# Altium schematic symbol library 74xx.SchLib: 245 symbols (part 1 of 2)
Pins are listed as number, name and electrical type; pins without a type are passive.

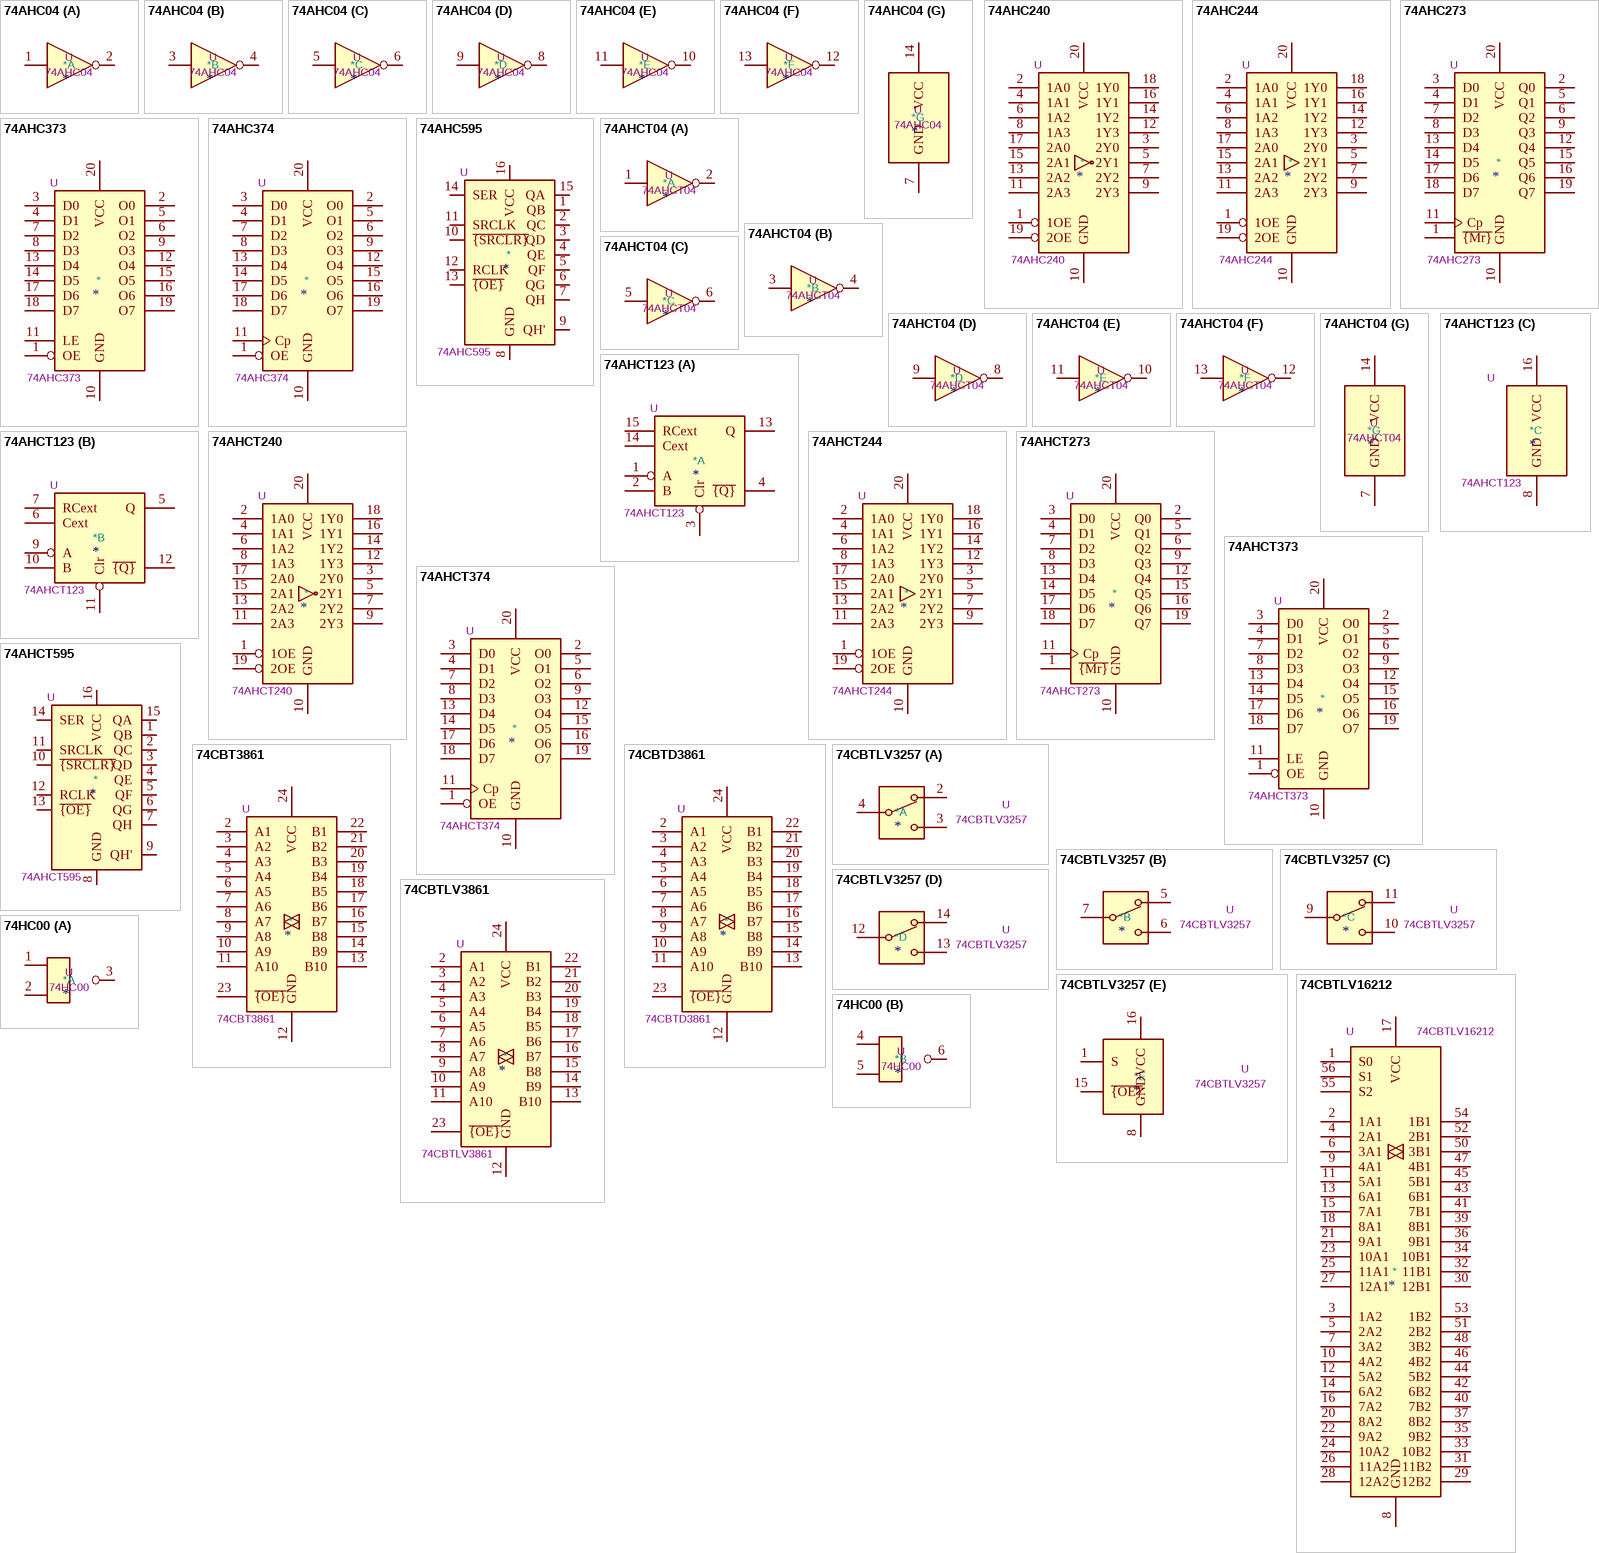
[diagram p0: symbols 74AHC04 to 74HC00]

## 74AHC04
designator *  value 74AHC04  Reference: U
ki_keywords: AHCMOS not inv; ki_description: Hex Inverter; ki_fp_filters: DIP*W7.62mm* SSOP?14* TSSOP?14*; Datasheet: https://assets.nexperia.com/documents/data-sheet/74AHC_AHCT04.pdf
part A pins: 1, 2
part B pins: 3, 4
part C pins: 5, 6
part D pins: 8, 9
part E pins: 10, 11
part F pins: 12, 13
part G pins: 7 GND, 14 VCC

## 74AHC240
designator *  value 74AHC240  Reference: U
ki_keywords: AHCMOS BUFFER 3State inv; ki_description: 8-bit Buffer/Line Driver 3-state Inverting; ki_fp_filters: DIP*W7.62mm* SOIC*7.5x12.8mm*P1.27mm* TSSOP*4.4x6.5mm*P0.65mm* SSOP*4.4x6.5mm*P0.65mm*; Datasheet: https://www.ti.com/lit/ds/symlink/sn54ahc240.pdf
pins: 1 1OE, 2 1A0, 3 2Y0, 4 1A1, 5 2Y1, 6 1A2, 7 2Y2, 8 1A3, 9 2Y3, 10 GND, 11 2A3, 12 1Y3, 13 2A2, 14 1Y2, 15 2A1, 16 1Y1, 17 2A0, 18 1Y0, 19 2OE, 20 VCC

## 74AHC244
designator *  value 74AHC244  Reference: U
ki_keywords: AHCMOS BUFFER 3State; ki_description: 8-bit Buffer/Line Driver 3-state; ki_fp_filters: TSSOP*4.4x6.5mm*P0.65mm* SSOP*4.4x6.5mm*P0.65mm*; Datasheet: https://assets.nexperia.com/documents/data-sheet/74AHC_AHCT244.pdf
pins: 1 1OE, 2 1A0, 3 2Y0, 4 1A1, 5 2Y1, 6 1A2, 7 2Y2, 8 1A3, 9 2Y3, 10 GND, 11 2A3, 12 1Y3, 13 2A2, 14 1Y2, 15 2A1, 16 1Y1, 17 2A0, 18 1Y0, 19 2OE, 20 VCC

## 74AHC273
designator *  value 74AHC273  Reference: U
ki_keywords: AHCMOS DFF DFF8; ki_description: 8-bit D Flip-Flop, reset; ki_fp_filters: DIP?20* SO?20* SOIC?20*; Datasheet: https://assets.nexperia.com/documents/data-sheet/74AHC_AHCT273.pdf
pins: 1 ~{{Mr}}, 2 Q0, 3 D0, 4 D1, 5 Q1, 6 Q2, 7 D2, 8 D3, 9 Q3, 10 GND, 11 Cp, 12 Q4, 13 D4, 14 D5, 15 Q5, 16 Q6, 17 D6, 18 D7, 19 Q7, 20 VCC

## 74AHC373
designator *  value 74AHC373  Reference: U
ki_keywords: AHCMOS REG DFF DFF8 LATCH; ki_description: 8-bit Latch, 3-state outputs; ki_fp_filters: DIP?20* SOIC?20* SO?20* SSOP?20* TSSOP?20*; Datasheet: https://assets.nexperia.com/documents/data-sheet/74AHC373.pdf
pins: 1 OE, 2 O0, 3 D0, 4 D1, 5 O1, 6 O2, 7 D2, 8 D3, 9 O3, 10 GND, 11 LE, 12 O4, 13 D4, 14 D5, 15 O5, 16 O6, 17 D6, 18 D7, 19 O7, 20 VCC

## 74AHC374
designator *  value 74AHC374  Reference: U
ki_keywords: AHCMOS DFF DFF8 REG 3State; ki_description: 8-bit Register, 3-state outputs; ki_fp_filters: DIP?20* SOIC?20* SO?20*; Datasheet: https://assets.nexperia.com/documents/data-sheet/74AHC_AHCT374.pdf
pins: 1 OE, 2 O0, 3 D0, 4 D1, 5 O1, 6 O2, 7 D2, 8 D3, 9 O3, 10 GND, 11 Cp, 12 O4, 13 D4, 14 D5, 15 O5, 16 O6, 17 D6, 18 D7, 19 O7, 20 VCC

## 74AHC595
designator *  value 74AHC595  Reference: U
ki_keywords: AHCMOS SR 3State; ki_description: 8-bit serial in/out Shift Register 3-State Outputs; ki_fp_filters: DIP*W7.62mm* SOIC*3.9x9.9mm*P1.27mm* TSSOP*4.4x5mm*P0.65mm* SOIC*5.3x10.2mm*P1.27mm* SOIC*7.5x10.3mm*P1.27mm*; Datasheet: https://assets.nexperia.com/documents/data-sheet/74AHC_AHCT595.pdf
pins: 1 QB, 2 QC, 3 QD, 4 QE, 5 QF, 6 QG, 7 QH, 8 GND, 9 QH', 10 ~{{SRCLR}}, 11 SRCLK, 12 RCLK, 13 ~{{OE}}, 14 SER, 15 QA, 16 VCC

## 74AHCT04
designator *  value 74AHCT04  Reference: U
ki_keywords: AHCTMOS not inv; ki_description: Hex Inverter; ki_fp_filters: DIP*W7.62mm* SSOP?14* TSSOP?14*; Datasheet: https://assets.nexperia.com/documents/data-sheet/74AHC_AHCT04.pdf
part A pins: 1, 2
part B pins: 3, 4
part C pins: 5, 6
part D pins: 8, 9
part E pins: 10, 11
part F pins: 12, 13
part G pins: 7 GND, 14 VCC

## 74AHCT123
designator *  value 74AHCT123  Reference: U
ki_keywords: TTL monostable, multivibrator; ki_description: Dual retriggerable monostable multivibrator; ki_fp_filters: DIP?16*; Datasheet: http://www.ti.com/lit/gpn/sn74ahct123a
part A pins: 1 A, 2 B, 3 Clr, 4 ~{{Q}}, 13 Q, 14 Cext, 15 RCext
part B pins: 5 Q, 6 Cext, 7 RCext, 9 A, 10 B, 11 Clr, 12 ~{{Q}}
part C pins: 8 GND, 16 VCC

## 74AHCT240
designator *  value 74AHCT240  Reference: U
ki_keywords: AHCTMOS BUFFER 3State inv; ki_description: 8-bit Buffer/Line Driver 3-state Inverting; ki_fp_filters: DIP*W7.62mm* SOIC*7.5x12.8mm*P1.27mm* TSSOP*4.4x6.5mm*P0.65mm* SSOP*4.4x6.5mm*P0.65mm*; Datasheet: https://assets.nexperia.com/documents/data-sheet/74AHCT240.pdf
pins: 1 1OE, 2 1A0, 3 2Y0, 4 1A1, 5 2Y1, 6 1A2, 7 2Y2, 8 1A3, 9 2Y3, 10 GND, 11 2A3, 12 1Y3, 13 2A2, 14 1Y2, 15 2A1, 16 1Y1, 17 2A0, 18 1Y0, 19 2OE, 20 VCC

## 74AHCT244
designator *  value 74AHCT244  Reference: U
ki_keywords: AHCTMOS BUFFER 3State; ki_description: 8-bit Buffer/Line Driver 3-state; ki_fp_filters: TSSOP*4.4x6.5mm*P0.65mm* SSOP*4.4x6.5mm*P0.65mm*; Datasheet: https://assets.nexperia.com/documents/data-sheet/74AHC_AHCT244.pdf
pins: 1 1OE, 2 1A0, 3 2Y0, 4 1A1, 5 2Y1, 6 1A2, 7 2Y2, 8 1A3, 9 2Y3, 10 GND, 11 2A3, 12 1Y3, 13 2A2, 14 1Y2, 15 2A1, 16 1Y1, 17 2A0, 18 1Y0, 19 2OE, 20 VCC

## 74AHCT273
designator *  value 74AHCT273  Reference: U
ki_keywords: AHCTMOS DFF DFF8; ki_description: 8-bit D Flip-Flop, reset; ki_fp_filters: DIP?20* SO?20* SOIC?20*; Datasheet: https://assets.nexperia.com/documents/data-sheet/74AHC_AHCT273.pdf
pins: 1 ~{{Mr}}, 2 Q0, 3 D0, 4 D1, 5 Q1, 6 Q2, 7 D2, 8 D3, 9 Q3, 10 GND, 11 Cp, 12 Q4, 13 D4, 14 D5, 15 Q5, 16 Q6, 17 D6, 18 D7, 19 Q7, 20 VCC

## 74AHCT373
designator *  value 74AHCT373  Reference: U
ki_keywords: AHCTMOS REG DFF DFF8 LATCH; ki_description: 8-bit Latch, 3-state outputs; ki_fp_filters: DIP?20* SOIC?20* SO?20* SSOP?20* TSSOP?20*; Datasheet: https://www.ti.com/lit/ds/symlink/sn74ahct373.pdf
pins: 1 OE, 2 O0, 3 D0, 4 D1, 5 O1, 6 O2, 7 D2, 8 D3, 9 O3, 10 GND, 11 LE, 12 O4, 13 D4, 14 D5, 15 O5, 16 O6, 17 D6, 18 D7, 19 O7, 20 VCC

## 74AHCT374
designator *  value 74AHCT374  Reference: U
ki_keywords: AHCTMOS DFF DFF8 REG 3State; ki_description: 8-bit Register, 3-state outputs; ki_fp_filters: DIP?20* SOIC?20* SO?20*; Datasheet: https://assets.nexperia.com/documents/data-sheet/74AHC_AHCT374.pdf
pins: 1 OE, 2 O0, 3 D0, 4 D1, 5 O1, 6 O2, 7 D2, 8 D3, 9 O3, 10 GND, 11 Cp, 12 O4, 13 D4, 14 D5, 15 O5, 16 O6, 17 D6, 18 D7, 19 O7, 20 VCC

## 74AHCT595
designator *  value 74AHCT595  Reference: U
ki_keywords: AHCTMOS SR 3State; ki_description: 8-bit serial in/out Shift Register 3-State Outputs; ki_fp_filters: DIP*W7.62mm* SOIC*3.9x9.9mm*P1.27mm* TSSOP*4.4x5mm*P0.65mm* SOIC*5.3x10.2mm*P1.27mm* SOIC*7.5x10.3mm*P1.27mm*; Datasheet: https://assets.nexperia.com/documents/data-sheet/74AHC_AHCT595.pdf
pins: 1 QB, 2 QC, 3 QD, 4 QE, 5 QF, 6 QG, 7 QH, 8 GND, 9 QH', 10 ~{{SRCLR}}, 11 SRCLK, 12 RCLK, 13 ~{{OE}}, 14 SER, 15 QA, 16 VCC

## 74CBT3861
designator *  value 74CBT3861  Reference: U
ki_keywords: bus; ki_description: 10-bit FET bus switch; ki_fp_filters: DIP?24*; Datasheet: https://www.ti.com/lit/ds/symlink/sn74cbt3861.pdf
pins: 1 NC hidden, 2 A1, 3 A2, 4 A3, 5 A4, 6 A5, 7 A6, 8 A7, 9 A8, 10 A9, 11 A10, 12 GND, 13 B10, 14 B9, 15 B8, 16 B7, 17 B6, 18 B5, 19 B4, 20 B3, 21 B2, 22 B1, 23 ~{{OE}}, 24 VCC

## 74CBTD3861
designator *  value 74CBTD3861  Reference: U
ki_keywords: bus; ki_description: 10-bit FET Bus switch; ki_fp_filters: DIP?24*; Datasheet: https://www.ti.com/lit/ds/symlink/sn74cbtd3861.pdf
pins: 1 NC hidden, 2 A1, 3 A2, 4 A3, 5 A4, 6 A5, 7 A6, 8 A7, 9 A8, 10 A9, 11 A10, 12 GND, 13 B10, 14 B9, 15 B8, 16 B7, 17 B6, 18 B5, 19 B4, 20 B3, 21 B2, 22 B1, 23 ~{{OE}}, 24 VCC

## 74CBTLV3257
designator *  value 74CBTLV3257  Reference: U
ki_keywords: mux demux low-voltage; ki_description: Quad 1:2 FET Multiplexer/Demultiplexer, Low-Voltage; ki_fp_filters: SSOP*3.9x4.9mm*P0.635mm* TSSOP*4.4x5mm*P0.65mm* TVSOP*4.4x3.6mm*P0.4mm* SOIC*3.9x9.9mm*P1.27mm*; Datasheet: http://www.ti.com/lit/ds/symlink/sn74cbtlv3257.pdf
part A pins: 2, 3, 4
part B pins: 5, 6, 7
part C pins: 9, 10, 11
part D pins: 12, 13, 14
part E pins: 1 S, 8 GND, 15 ~{{OE}}, 16 VCC

## 74CBTLV3861
designator *  value 74CBTLV3861  Reference: U
ki_keywords: bus; ki_description: Low-voltage 10-bit FET bus switch; ki_fp_filters: DIP?24*; Datasheet: http://www.ti.com/lit/gpn/sn74cbtlv3861
pins: 1 NC hidden, 2 A1, 3 A2, 4 A3, 5 A4, 6 A5, 7 A6, 8 A7, 9 A8, 10 A9, 11 A10, 12 GND, 13 B10, 14 B9, 15 B8, 16 B7, 17 B6, 18 B5, 19 B4, 20 B3, 21 B2, 22 B1, 23 ~{{OE}}, 24 VCC

## 74CBTLV16212
designator *  value 74CBTLV16212  Reference: U
ki_keywords: bus; ki_description: Low-voltage 24-bit FET Bus-exchange switch; ki_fp_filters: SSOP* TSSOP*; Datasheet: https://www.ti.com/lit/ds/symlink/sn74cbtlv16212.pdf
pins: 1 S0, 2 1A1, 3 1A2, 4 2A1, 5 2A2, 6 3A1, 7 3A2, 8 GND, 9 4A1, 10 4A2, 11 5A1, 12 5A2, 13 6A1, 14 6A2, 15 7A1, 16 7A2, 17 VCC, 18 8A1, 19 GND hidden, 20 8A2, 21 9A1, 22 9A2, 23 10A1, 24 10A2, 25 11A1, 26 11A2, 27 12A1, 28 12A2, 29 12B2, 30 12B1, 31 11B2, 32 11B1, 33 10B2, 34 10B1, 35 9B2, 36 9B1, 37 8B2, 38 GND hidden, 39 8B1, 40 7B2, 41 7B1, 42 6B2, 43 6B1, 44 5B2, 45 5B1, 46 4B2, 47 4B1, 48 3B2, 49 GND hidden, 50 3B1, 51 2B2, 52 2B1, 53 1B2, 54 1B1, 55 S2, 56 S1

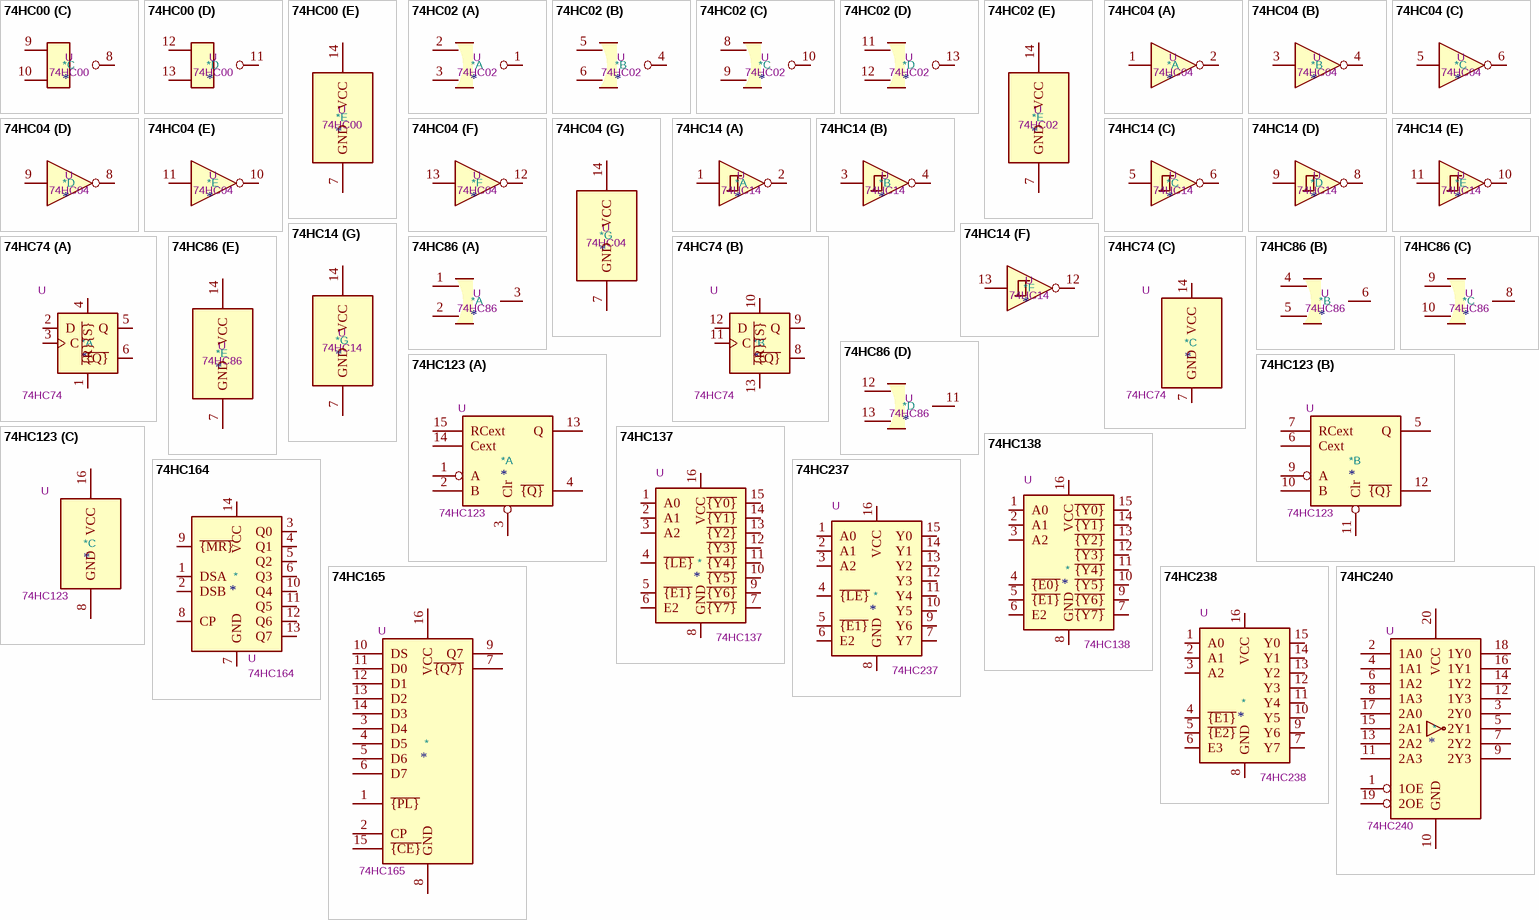
[diagram p1: symbols 74HC00 to 74HC240]

## 74HC00
designator *  value 74HC00  Reference: U
ki_keywords: HCMOS nand 2-input; ki_description: quad 2-input NAND gate; ki_fp_filters: DIP*W7.62mm* SO14*; Datasheet: http://www.ti.com/lit/gpn/sn74hc00
part A pins: 1, 2, 3
part B pins: 4, 5, 6
part C pins: 8, 9, 10
part D pins: 11, 12, 13
part E pins: 7 GND, 14 VCC
1 alternate drawing of the same symbol

## 74HC02
designator *  value 74HC02  Reference: U
ki_keywords: HCMOS Nor2; ki_description: quad 2-input NOR gate; ki_fp_filters: SO14* DIP*W7.62mm*; Datasheet: http://www.ti.com/lit/gpn/sn74hc02
part A pins: 1, 2, 3
part B pins: 4, 5, 6
part C pins: 8, 9, 10
part D pins: 11, 12, 13
part E pins: 7 GND, 14 VCC
1 alternate drawing of the same symbol

## 74HC04
designator *  value 74HC04  Reference: U
ki_keywords: HCMOS not inv; ki_description: Hex Inverter; ki_fp_filters: DIP*W7.62mm* SSOP?14* TSSOP?14*; Datasheet: https://assets.nexperia.com/documents/data-sheet/74HC_HCT04.pdf
part A pins: 1, 2
part B pins: 3, 4
part C pins: 5, 6
part D pins: 8, 9
part E pins: 10, 11
part F pins: 12, 13
part G pins: 7 GND, 14 VCC

## 74HC14
designator *  value 74HC14  Reference: U
ki_keywords: HCMOS not inverter; ki_description: Hex inverter schmitt trigger; ki_fp_filters: DIP*W7.62mm*; Datasheet: http://www.ti.com/lit/gpn/sn74HC14
part A pins: 1, 2
part B pins: 3, 4
part C pins: 5, 6
part D pins: 8, 9
part E pins: 10, 11
part F pins: 12, 13
part G pins: 7 GND, 14 VCC

## 74HC74
designator *  value 74HC74  Reference: U
ki_keywords: TTL DFF; ki_description: Dual D Flip-flop, Set & Reset; ki_fp_filters: DIP*W7.62mm*; Datasheet: 74xx/74hc_hct74.pdf
part A pins: 1 ~{{R}}, 2 D, 3 C, 4 ~{{S}}, 5 Q, 6 ~{{Q}}
part B pins: 8 ~{{Q}}, 9 Q, 10 ~{{S}}, 11 C, 12 D, 13 ~{{R}}
part C pins: 7 GND, 14 VCC

## 74HC86
designator *  value 74HC86  Reference: U
ki_keywords: TTL XOR2; ki_description: Quad 2-input XOR; ki_fp_filters: DIP*W7.62mm*; Datasheet: http://www.ti.com/lit/gpn/sn74HC86
part A pins: 1, 2, 3
part B pins: 4, 5, 6
part C pins: 8, 9, 10
part D pins: 11, 12, 13
part E pins: 7 GND, 14 VCC

## 74HC123
designator *  value 74HC123  Reference: U
ki_keywords: TTL monostable, multivibrator; ki_description: Dual retriggerable monostable multivibrator; ki_fp_filters: DIP?16*; Datasheet: https://assets.nexperia.com/documents/data-sheet/74HC_HCT123.pdf
part A pins: 1 A, 2 B, 3 Clr, 4 ~{{Q}}, 13 Q, 14 Cext, 15 RCext
part B pins: 5 Q, 6 Cext, 7 RCext, 9 A, 10 B, 11 Clr, 12 ~{{Q}}
part C pins: 8 GND, 16 VCC

## 74HC137
designator *  value 74HC137  Reference: U
ki_keywords: demux; ki_description: 3-to-8 line decoder/multiplexer with address latches, DIP-16/SOIC-16/SSOP-16; ki_fp_filters: DIP*W7.62mm* SOIC*3.9x9.9mm*P1.27mm* SSOP*5.3x6.2mm*P0.65mm*; Datasheet: http://www.ti.com/lit/ds/symlink/cd74hc237.pdf
pins: 1 A0, 2 A1, 3 A2, 4 ~{{LE}}, 5 ~{{E1}}, 6 E2, 7 ~{{Y7}}, 8 GND, 9 ~{{Y6}}, 10 ~{{Y5}}, 11 ~{{Y4}}, 12 ~{{Y3}}, 13 ~{{Y2}}, 14 ~{{Y1}}, 15 ~{{Y0}}, 16 VCC

## 74HC138
designator *  value 74HC138  Reference: U
ki_keywords: demux; ki_description: 3-to-8 line decoder/multiplexer inverting, DIP-16/SOIC-16/SSOP-16; ki_fp_filters: DIP*W7.62mm* SOIC*3.9x9.9mm*P1.27mm* SSOP*5.3x6.2mm*P0.65mm*; Datasheet: http://www.ti.com/lit/ds/symlink/cd74hc238.pdf
pins: 1 A0, 2 A1, 3 A2, 4 ~{{E0}}, 5 ~{{E1}}, 6 E2, 7 ~{{Y7}}, 8 GND, 9 ~{{Y6}}, 10 ~{{Y5}}, 11 ~{{Y4}}, 12 ~{{Y3}}, 13 ~{{Y2}}, 14 ~{{Y1}}, 15 ~{{Y0}}, 16 VCC

## 74HC164
designator *  value 74HC164  Reference: U
ki_keywords: 8-bit shift register; ki_description: 8-bit serial-in parallel-out shift register; ki_fp_filters: SOIC*3.9x8.7*P1.27mm* ?SSOP*P0.65mm* DIP*W7.62mm*; Datasheet: https://assets.nexperia.com/documents/data-sheet/74HC_HCT164.pdf
pins: 1 DSA, 2 DSB, 3 Q0, 4 Q1, 5 Q2, 6 Q3, 7 GND, 8 CP, 9 ~{{MR}}, 10 Q4, 11 Q5, 12 Q6, 13 Q7, 14 VCC

## 74HC165
designator *  value 74HC165  Reference: U
ki_keywords: 8 bit shift register parallel load cmos; ki_description: Shift Register, 8-bit, Parallel Load; ki_fp_filters: DIP?16* SO*16*3.9x9.9mm*P1.27mm* SSOP*16*5.3x6.2mm*P0.65mm* TSSOP*16*4.4x5mm*P0.65*; Datasheet: https://assets.nexperia.com/documents/data-sheet/74HC_HCT165.pdf
pins: 1 ~{{PL}}, 2 CP, 3 D4, 4 D5, 5 D6, 6 D7, 7 ~{{Q7}}, 8 GND, 9 Q7, 10 DS, 11 D0, 12 D1, 13 D2, 14 D3, 15 ~{{CE}}, 16 VCC

## 74HC237
designator *  value 74HC237  Reference: U
ki_keywords: demux; ki_description: 3-to-8 line decoder/multiplexer with address latches, DIP-16/SOIC-16/SSOP-16; ki_fp_filters: DIP*W7.62mm* SOIC*3.9x9.9mm*P1.27mm* SSOP*5.3x6.2mm*P0.65mm*; Datasheet: http://www.ti.com/lit/ds/symlink/cd74hc237.pdf
pins: 1 A0, 2 A1, 3 A2, 4 ~{{LE}}, 5 ~{{E1}}, 6 E2, 7 Y7, 8 GND, 9 Y6, 10 Y5, 11 Y4, 12 Y3, 13 Y2, 14 Y1, 15 Y0, 16 VCC

## 74HC238
designator *  value 74HC238  Reference: U
ki_keywords: demux; ki_description: 3-to-8 line decoder/multiplexer, DIP-16/SOIC-16/SSOP-16; ki_fp_filters: DIP*W7.62mm* SOIC*3.9x9.9mm*P1.27mm* TSSOP*4.4x5mm*P0.65mm*; Datasheet: https://www.ti.com/lit/ds/symlink/cd74hc238.pdf
pins: 1 A0, 2 A1, 3 A2, 4 ~{{E1}}, 5 ~{{E2}}, 6 E3, 7 Y7, 8 GND, 9 Y6, 10 Y5, 11 Y4, 12 Y3, 13 Y2, 14 Y1, 15 Y0, 16 VCC

## 74HC240
designator *  value 74HC240  Reference: U
ki_keywords: HCMOS BUFFER 3State inv; ki_description: 8-bit Buffer/Line Driver 3-state Inverting; ki_fp_filters: DIP*W7.62mm* SOIC*7.5x12.8mm*P1.27mm* TSSOP*4.4x6.5mm*P0.65mm* SSOP*4.4x6.5mm*P0.65mm*; Datasheet: https://assets.nexperia.com/documents/data-sheet/74HC_HCT240.pdf
pins: 1 1OE, 2 1A0, 3 2Y0, 4 1A1, 5 2Y1, 6 1A2, 7 2Y2, 8 1A3, 9 2Y3, 10 GND, 11 2A3, 12 1Y3, 13 2A2, 14 1Y2, 15 2A1, 16 1Y1, 17 2A0, 18 1Y0, 19 2OE, 20 VCC

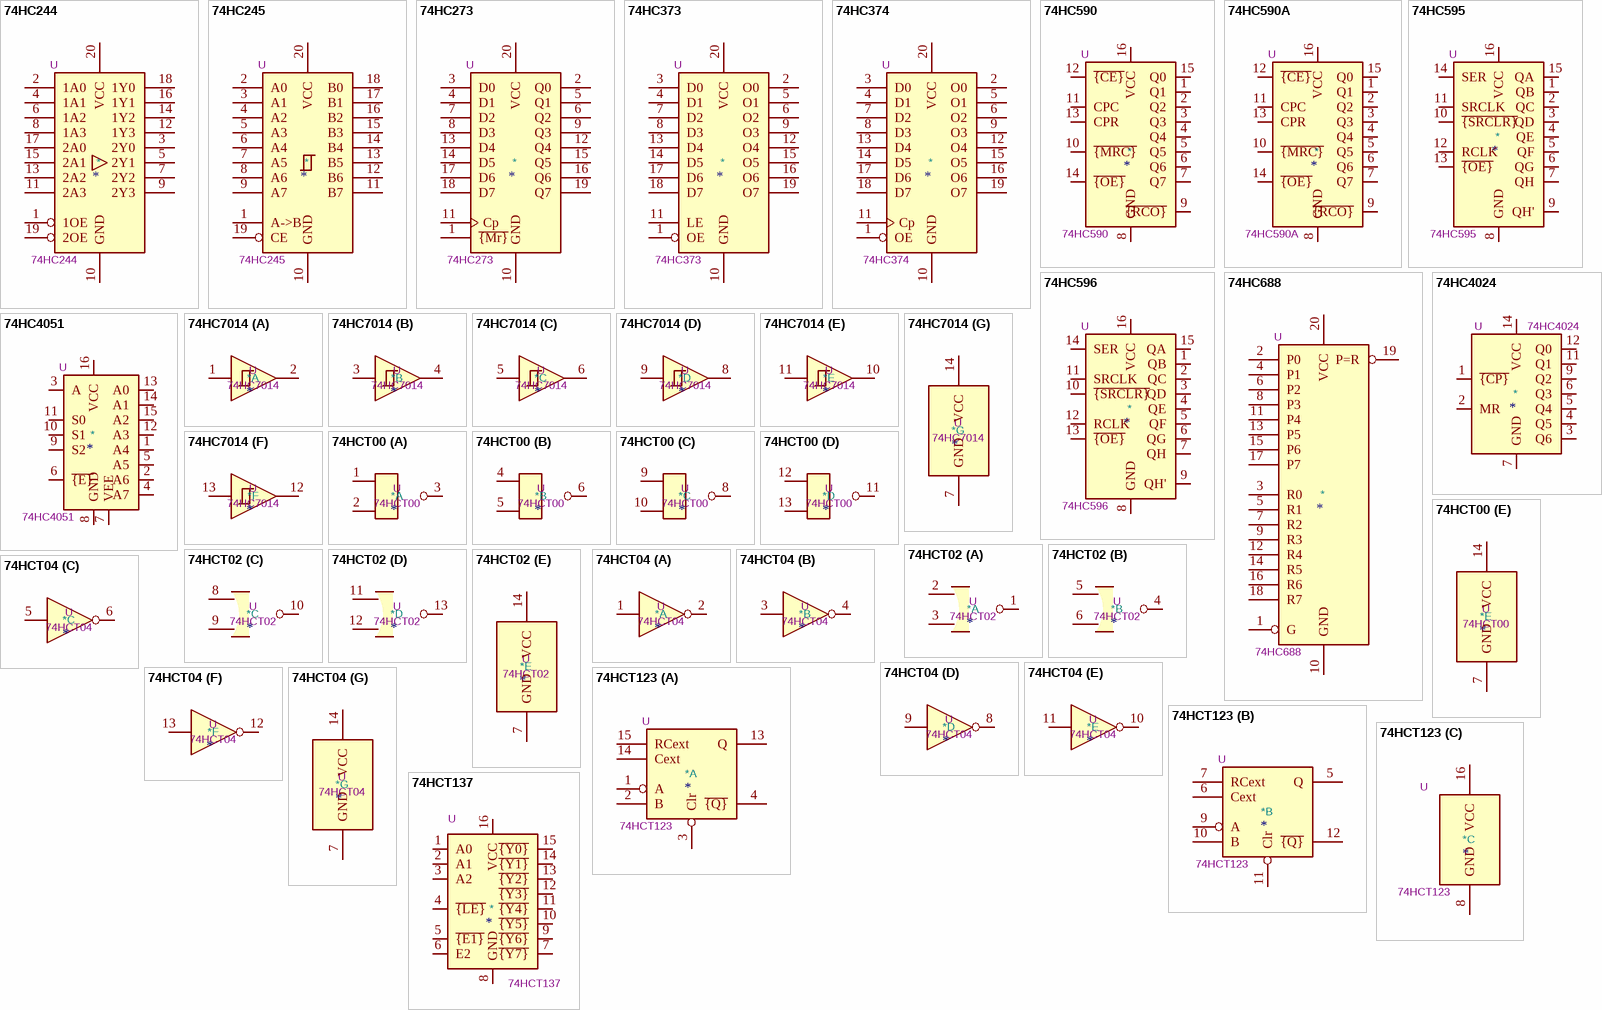
[diagram p2: symbols 74HC244 to 74HCT137]

## 74HC244
designator *  value 74HC244  Reference: U
ki_keywords: HCMOS BUFFER 3State; ki_description: 8-bit Buffer/Line Driver 3-state; ki_fp_filters: TSSOP*4.4x6.5mm*P0.65mm* SSOP*4.4x6.5mm*P0.65mm*; Datasheet: https://assets.nexperia.com/documents/data-sheet/74HC_HCT244.pdf
pins: 1 1OE, 2 1A0, 3 2Y0, 4 1A1, 5 2Y1, 6 1A2, 7 2Y2, 8 1A3, 9 2Y3, 10 GND, 11 2A3, 12 1Y3, 13 2A2, 14 1Y2, 15 2A1, 16 1Y1, 17 2A0, 18 1Y0, 19 2OE, 20 VCC

## 74HC245
designator *  value 74HC245  Reference: U
ki_keywords: HCMOS BUS 3State; ki_description: Octal BUS Transceivers, 3-State outputs; ki_fp_filters: DIP?20*; Datasheet: http://www.ti.com/lit/gpn/sn74HC245
pins: 1 A->B, 2 A0, 3 A1, 4 A2, 5 A3, 6 A4, 7 A5, 8 A6, 9 A7, 10 GND, 11 B7, 12 B6, 13 B5, 14 B4, 15 B3, 16 B2, 17 B1, 18 B0, 19 CE, 20 VCC

## 74HC273
designator *  value 74HC273  Reference: U
ki_keywords: HCMOS DFF DFF8; ki_description: 8-bit D Flip-Flop, reset; ki_fp_filters: DIP?20* SO?20* SOIC?20*; Datasheet: https://assets.nexperia.com/documents/data-sheet/74HC_HCT273.pdf
pins: 1 ~{{Mr}}, 2 Q0, 3 D0, 4 D1, 5 Q1, 6 Q2, 7 D2, 8 D3, 9 Q3, 10 GND, 11 Cp, 12 Q4, 13 D4, 14 D5, 15 Q5, 16 Q6, 17 D6, 18 D7, 19 Q7, 20 VCC

## 74HC373
designator *  value 74HC373  Reference: U
ki_keywords: HCMOS REG DFF DFF8 LATCH; ki_description: 8-bit Latch, 3-state outputs; ki_fp_filters: DIP?20* SOIC?20* SO?20* SSOP?20* TSSOP?20*; Datasheet: https://www.ti.com/lit/ds/symlink/cd54hc373.pdf
pins: 1 OE, 2 O0, 3 D0, 4 D1, 5 O1, 6 O2, 7 D2, 8 D3, 9 O3, 10 GND, 11 LE, 12 O4, 13 D4, 14 D5, 15 O5, 16 O6, 17 D6, 18 D7, 19 O7, 20 VCC

## 74HC374
designator *  value 74HC374  Reference: U
ki_keywords: HCMOS DFF DFF8 REG 3State; ki_description: 8-bit Register, 3-state outputs; ki_fp_filters: DIP?20* SOIC?20* SO?20*; Datasheet: https://www.ti.com/lit/ds/symlink/cd74hct374.pdf
pins: 1 OE, 2 O0, 3 D0, 4 D1, 5 O1, 6 O2, 7 D2, 8 D3, 9 O3, 10 GND, 11 Cp, 12 O4, 13 D4, 14 D5, 15 O5, 16 O6, 17 D6, 18 D7, 19 O7, 20 VCC

## 74HC590
designator *  value 74HC590  Reference: U
ki_keywords: HCMOS Counter 3State; ki_description: 8-bit Binary Counter with Output Register 3-State Outputs, SOIC-16/TSSOP-16; ki_fp_filters: DIP*W7.62mm* SOIC*3.9x9.9mm*P1.27mm* TSSOP*4.4x5mm*P0.65mm* SOIC*5.3x10.2mm*P1.27mm* SOIC*7.5x10.3mm*P1.27mm*; Datasheet: https://assets.nexperia.com/documents/data-sheet/74HC590.pdf
pins: 1 Q1, 2 Q2, 3 Q3, 4 Q4, 5 Q5, 6 Q6, 7 Q7, 8 GND, 9 ~{{RCO}}, 10 ~{{MRC}}, 11 CPC, 12 ~{{CE}}, 13 CPR, 14 ~{{OE}}, 15 Q0, 16 VCC

## 74HC590A
designator *  value 74HC590A  Reference: U
ki_keywords: HCMOS Counter 3State; ki_description: 8-bit Binary Counter with Output Register 3-State Outputs, DIP-16/SOIC-16/SOIC-16W; ki_fp_filters: DIP*W7.62mm* SOIC*3.9x9.9mm*P1.27mm* TSSOP*4.4x5mm*P0.65mm* SOIC*5.3x10.2mm*P1.27mm* SOIC*7.5x10.3mm*P1.27mm*; Datasheet: http://www.ti.com/lit/ds/symlink/sn74hc590a.pdf
pins: 1 Q1, 2 Q2, 3 Q3, 4 Q4, 5 Q5, 6 Q6, 7 Q7, 8 GND, 9 ~{{RCO}}, 10 ~{{MRC}}, 11 CPC, 12 ~{{CE}}, 13 CPR, 14 ~{{OE}}, 15 Q0, 16 VCC

## 74HC595
designator *  value 74HC595  Reference: U
ki_keywords: HCMOS SR 3State; ki_description: 8-bit serial in/out Shift Register 3-State Outputs; ki_fp_filters: DIP*W7.62mm* SOIC*3.9x9.9mm*P1.27mm* TSSOP*4.4x5mm*P0.65mm* SOIC*5.3x10.2mm*P1.27mm* SOIC*7.5x10.3mm*P1.27mm*; Datasheet: http://www.ti.com/lit/ds/symlink/sn74hc595.pdf
pins: 1 QB, 2 QC, 3 QD, 4 QE, 5 QF, 6 QG, 7 QH, 8 GND, 9 QH', 10 ~{{SRCLR}}, 11 SRCLK, 12 RCLK, 13 ~{{OE}}, 14 SER, 15 QA, 16 VCC

## 74HC596
designator *  value 74HC596  Reference: U
ki_keywords: HCMOS SR OpenCollector; ki_description: 8-bit serial in/out Shift Register Open Collector Outputs; ki_fp_filters: DIP*W7.62mm* SOIC*3.9x9.9mm*P1.27mm* TSSOP*4.4x5mm*P0.65mm* SOIC*5.3x10.2mm*P1.27mm* SOIC*7.5x10.3mm*P1.27mm*; Datasheet: https://assets.nexperia.com/documents/data-sheet/74HC_HCT595.pdf
pins: 1 QB, 2 QC, 3 QD, 4 QE, 5 QF, 6 QG, 7 QH, 8 GND, 9 QH', 10 ~{{SRCLR}}, 11 SRCLK, 12 RCLK, 13 ~{{OE}}, 14 SER, 15 QA, 16 VCC

## 74HC688
designator *  value 74HC688  Reference: U
ki_keywords: HCMOS DECOD Arith; ki_description: 8-bit magnitude comparator; ki_fp_filters: DIP?20* SOIC?20* SO?20* TSSOP?20*; Datasheet: https://www.ti.com/lit/ds/symlink/cd54hc688.pdf
pins: 1 G, 2 P0, 3 R0, 4 P1, 5 R1, 6 P2, 7 R2, 8 P3, 9 R3, 10 GND, 11 P4, 12 R4, 13 P5, 14 R5, 15 P6, 16 R6, 17 P7, 18 R7, 19 P=R, 20 VCC

## 74HC4024
designator *  value 74HC4024  Reference: U
ki_keywords: binary counter; ki_description: 7-stage binary ripple counter, SOIC-14; ki_fp_filters: SOIC*3.9x8.7mm*P1.27mm*; Footprint: Package_SO:SOIC-14_3.9x8.7mm_P1.27mm; Datasheet: https://assets.nexperia.com/documents/data-sheet/74HC4024.pdf
pins: 1 ~{{CP}}, 2 MR, 3 Q6, 4 Q5, 5 Q4, 6 Q3, 7 GND, 8 hidden, 9 Q2, 10 hidden, 11 Q1, 12 Q0, 13 hidden, 14 VCC

## 74HC4051
designator *  value 74HC4051  Reference: U
ki_keywords: HCMOS Multiplexer Demultiplexer Analog; ki_description: 8-channel analog multiplexer/demultiplexer, DIP-16/SOIC-16/TSSOP-16; ki_fp_filters: DIP*W7.62mm* SOIC*3.9x9.9mm*P1.27mm* SOIC*5.3x10.2mm*P1.27mm* TSSOP*4.4x5mm*P0.65mm*; Datasheet: http://www.ti.com/lit/ds/symlink/cd74hc4051.pdf
pins: 1 A4, 2 A6, 3 A, 4 A7, 5 A5, 6 ~{{E}}, 7 VEE, 8 GND, 9 S2, 10 S1, 11 S0, 12 A3, 13 A0, 14 A1, 15 A2, 16 VCC

## 74HC7014
designator *  value 74HC7014  Reference: U
ki_keywords: Hex non-inverting Schmitt buffer; ki_description: Hex non-inverting buffer with precision Schmitt Trigger inputs, SOIC-14; ki_fp_filters: SOIC*3.9x8.7mm*P1.27mm*; Footprint: Package_SO:SOIC-14_3.9x8.7mm_P1.27mm; Datasheet: https://assets.nexperia.com/documents/data-sheet/74HC7014.pdf
part A pins: 1, 2
part B pins: 3, 4
part C pins: 5, 6
part D pins: 8, 9
part E pins: 10, 11
part F pins: 12, 13
part G pins: 7 GND, 14 VCC

## 74HCT00
designator *  value 74HCT00  Reference: U
ki_keywords: HCTMOS nand 2-input; ki_description: quad 2-input NAND gate; ki_fp_filters: DIP*W7.62mm* SO14*; Datasheet: http://www.ti.com/lit/gpn/sn74hct00
part A pins: 1, 2, 3
part B pins: 4, 5, 6
part C pins: 8, 9, 10
part D pins: 11, 12, 13
part E pins: 7 GND, 14 VCC
1 alternate drawing of the same symbol

## 74HCT02
designator *  value 74HCT02  Reference: U
ki_keywords: HCTMOS Nor2; ki_description: quad 2-input NOR gate; ki_fp_filters: SO14* DIP*W7.62mm*; Datasheet: http://www.ti.com/lit/gpn/sn74hct02
part A pins: 1, 2, 3
part B pins: 4, 5, 6
part C pins: 8, 9, 10
part D pins: 11, 12, 13
part E pins: 7 GND, 14 VCC
1 alternate drawing of the same symbol

## 74HCT04
designator *  value 74HCT04  Reference: U
ki_keywords: HCTMOS not inv; ki_description: Hex Inverter; ki_fp_filters: DIP*W7.62mm* SSOP?14* TSSOP?14*; Datasheet: https://assets.nexperia.com/documents/data-sheet/74HC_HCT04.pdf
part A pins: 1, 2
part B pins: 3, 4
part C pins: 5, 6
part D pins: 8, 9
part E pins: 10, 11
part F pins: 12, 13
part G pins: 7 GND, 14 VCC

## 74HCT123
designator *  value 74HCT123  Reference: U
ki_keywords: TTL monostable, multivibrator; ki_description: Dual retriggerable monostable multivibrator; ki_fp_filters: DIP?16*; Datasheet: https://assets.nexperia.com/documents/data-sheet/74HC_HCT123.pdf
part A pins: 1 A, 2 B, 3 Clr, 4 ~{{Q}}, 13 Q, 14 Cext, 15 RCext
part B pins: 5 Q, 6 Cext, 7 RCext, 9 A, 10 B, 11 Clr, 12 ~{{Q}}
part C pins: 8 GND, 16 VCC

## 74HCT137
designator *  value 74HCT137  Reference: U
ki_keywords: demux; ki_description: 3-to-8 line decoder/multiplexer with address latches, DIP-16/SOIC-16/SSOP-16; ki_fp_filters: DIP*W7.62mm* SOIC*3.9x9.9mm*P1.27mm* SSOP*5.3x6.2mm*P0.65mm*; Datasheet: http://www.ti.com/lit/ds/symlink/cd74hc237.pdf
pins: 1 A0, 2 A1, 3 A2, 4 ~{{LE}}, 5 ~{{E1}}, 6 E2, 7 ~{{Y7}}, 8 GND, 9 ~{{Y6}}, 10 ~{{Y5}}, 11 ~{{Y4}}, 12 ~{{Y3}}, 13 ~{{Y2}}, 14 ~{{Y1}}, 15 ~{{Y0}}, 16 VCC

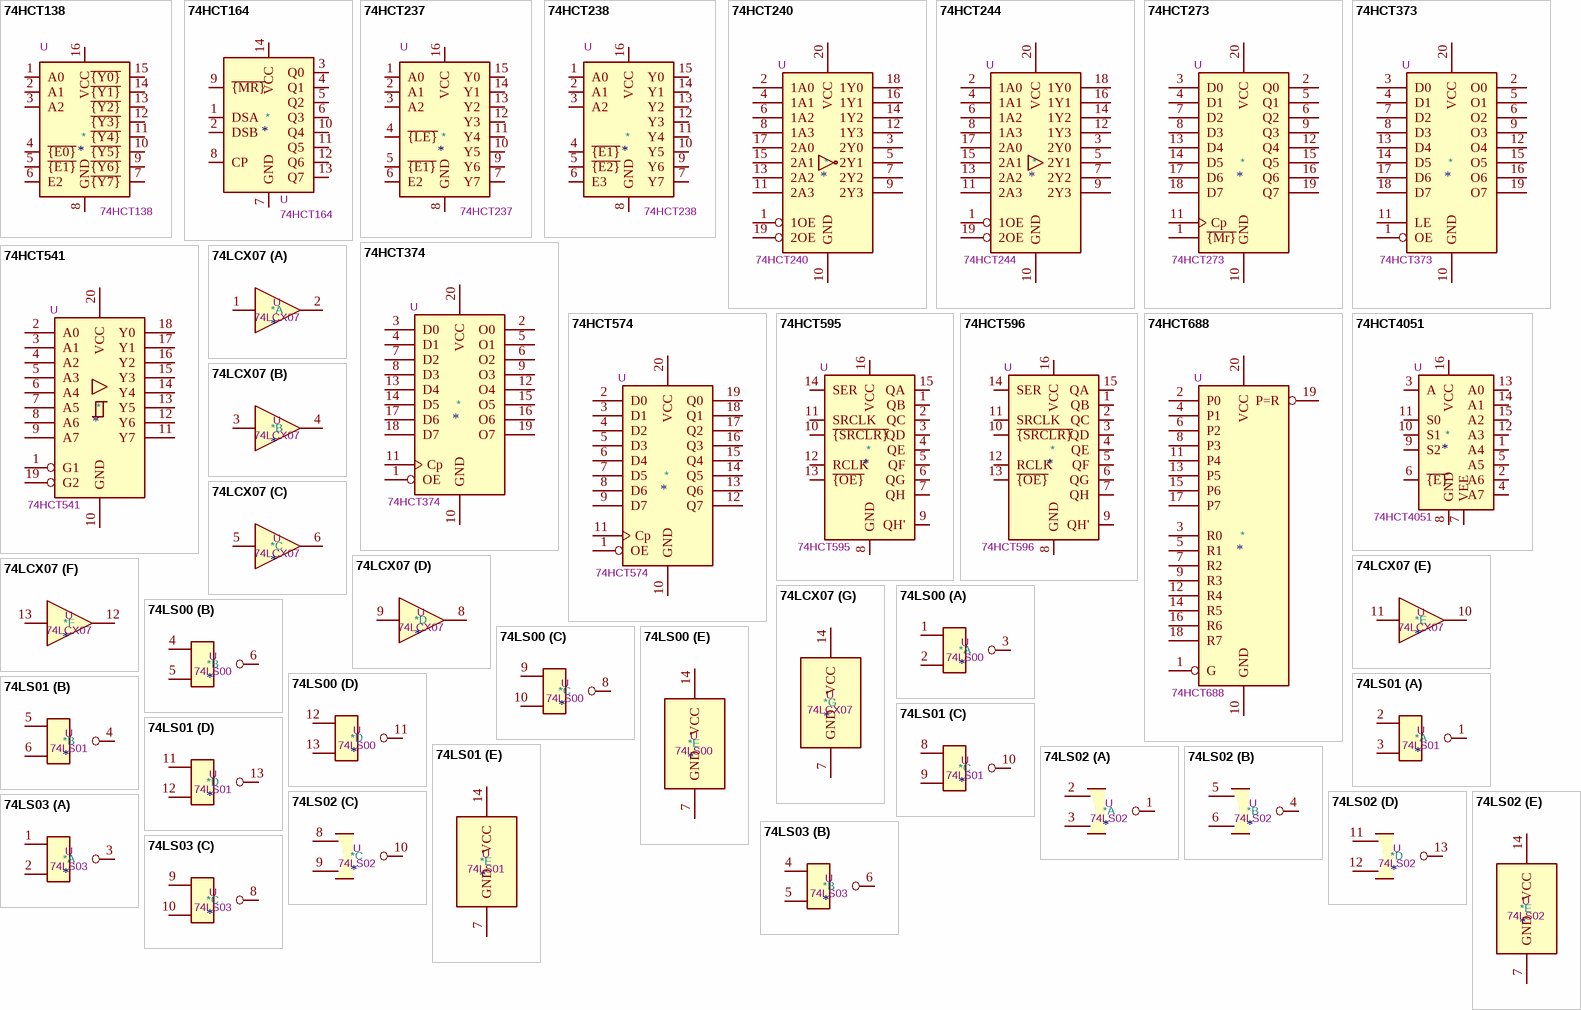
[diagram p3: symbols 74HCT138 to 74LS03]

## 74HCT138
designator *  value 74HCT138  Reference: U
ki_keywords: demux; ki_description: 3-to-8 line decoder/multiplexer inverting, DIP-16/SOIC-16/SSOP-16; ki_fp_filters: DIP*W7.62mm* SOIC*3.9x9.9mm*P1.27mm* SSOP*5.3x6.2mm*P0.65mm*; Datasheet: http://www.ti.com/lit/ds/symlink/cd74hc238.pdf
pins: 1 A0, 2 A1, 3 A2, 4 ~{{E0}}, 5 ~{{E1}}, 6 E2, 7 ~{{Y7}}, 8 GND, 9 ~{{Y6}}, 10 ~{{Y5}}, 11 ~{{Y4}}, 12 ~{{Y3}}, 13 ~{{Y2}}, 14 ~{{Y1}}, 15 ~{{Y0}}, 16 VCC

## 74HCT164
designator *  value 74HCT164  Reference: U
ki_keywords: 8-bit shift register; ki_description: 8-bit serial-in parallel-out shift register; ki_fp_filters: SOIC*3.9x8.7*P1.27mm* ?SSOP*P0.65mm* DIP*W7.62mm*; Datasheet: https://assets.nexperia.com/documents/data-sheet/74HC_HCT164.pdf
pins: 1 DSA, 2 DSB, 3 Q0, 4 Q1, 5 Q2, 6 Q3, 7 GND, 8 CP, 9 ~{{MR}}, 10 Q4, 11 Q5, 12 Q6, 13 Q7, 14 VCC

## 74HCT237
designator *  value 74HCT237  Reference: U
ki_keywords: demux; ki_description: 3-to-8 line decoder/multiplexer with address latches, DIP-16/SOIC-16/SSOP-16; ki_fp_filters: DIP*W7.62mm* SOIC*3.9x9.9mm*P1.27mm* SSOP*5.3x6.2mm*P0.65mm*; Datasheet: http://www.ti.com/lit/ds/symlink/cd74hc237.pdf
pins: 1 A0, 2 A1, 3 A2, 4 ~{{LE}}, 5 ~{{E1}}, 6 E2, 7 Y7, 8 GND, 9 Y6, 10 Y5, 11 Y4, 12 Y3, 13 Y2, 14 Y1, 15 Y0, 16 VCC

## 74HCT238
designator *  value 74HCT238  Reference: U
ki_keywords: demux; ki_description: 3-to-8 line decoder/multiplexer, DIP-16/SOIC-16/SSOP-16; ki_fp_filters: DIP*W7.62mm* SOIC*3.9x9.9mm*P1.27mm* TSSOP*4.4x5mm*P0.65mm*; Datasheet: https://www.ti.com/lit/ds/symlink/cd74hc238.pdf
pins: 1 A0, 2 A1, 3 A2, 4 ~{{E1}}, 5 ~{{E2}}, 6 E3, 7 Y7, 8 GND, 9 Y6, 10 Y5, 11 Y4, 12 Y3, 13 Y2, 14 Y1, 15 Y0, 16 VCC

## 74HCT240
designator *  value 74HCT240  Reference: U
ki_keywords: HCTMOS BUFFER 3State inv; ki_description: 8-bit buffer; 3-state; inverting; ki_fp_filters: DIP*W7.62mm* SOIC*7.5x12.8mm*P1.27mm* TSSOP*4.4x6.5mm*P0.65mm* SSOP*4.4x6.5mm*P0.65mm*; Datasheet: https://assets.nexperia.com/documents/data-sheet/74HC_HCT240.pdf
pins: 1 1OE, 2 1A0, 3 2Y0, 4 1A1, 5 2Y1, 6 1A2, 7 2Y2, 8 1A3, 9 2Y3, 10 GND, 11 2A3, 12 1Y3, 13 2A2, 14 1Y2, 15 2A1, 16 1Y1, 17 2A0, 18 1Y0, 19 2OE, 20 VCC

## 74HCT244
designator *  value 74HCT244  Reference: U
ki_keywords: HCTMOS BUFFER 3State; ki_description: 8-bit Buffer/Line Driver 3-state; ki_fp_filters: TSSOP*4.4x6.5mm*P0.65mm* SSOP*4.4x6.5mm*P0.65mm*; Datasheet: https://assets.nexperia.com/documents/data-sheet/74HC_HCT244.pdf
pins: 1 1OE, 2 1A0, 3 2Y0, 4 1A1, 5 2Y1, 6 1A2, 7 2Y2, 8 1A3, 9 2Y3, 10 GND, 11 2A3, 12 1Y3, 13 2A2, 14 1Y2, 15 2A1, 16 1Y1, 17 2A0, 18 1Y0, 19 2OE, 20 VCC

## 74HCT273
designator *  value 74HCT273  Reference: U
ki_keywords: HCTMOS DFF DFF8; ki_description: 8-bit D Flip-Flop, reset; ki_fp_filters: DIP?20* SO?20* SOIC?20*; Datasheet: https://assets.nexperia.com/documents/data-sheet/74HC_HCT273.pdf
pins: 1 ~{{Mr}}, 2 Q0, 3 D0, 4 D1, 5 Q1, 6 Q2, 7 D2, 8 D3, 9 Q3, 10 GND, 11 Cp, 12 Q4, 13 D4, 14 D5, 15 Q5, 16 Q6, 17 D6, 18 D7, 19 Q7, 20 VCC

## 74HCT373
designator *  value 74HCT373  Reference: U
ki_keywords: HCTMOS REG DFF DFF8 LATCH; ki_description: 8-bit Latch, 3-state outputs; ki_fp_filters: DIP?20* SOIC?20* SO?20* SSOP?20* TSSOP?20*; Datasheet: https://www.ti.com/lit/ds/symlink/sn74hct373.pdf
pins: 1 OE, 2 O0, 3 D0, 4 D1, 5 O1, 6 O2, 7 D2, 8 D3, 9 O3, 10 GND, 11 LE, 12 O4, 13 D4, 14 D5, 15 O5, 16 O6, 17 D6, 18 D7, 19 O7, 20 VCC

## 74HCT374
designator *  value 74HCT374  Reference: U
ki_keywords: HCTMOS DFF DFF8 REG 3State; ki_description: 8-bit Register, 3-state outputs; ki_fp_filters: DIP?20* SOIC?20* SO?20*; Datasheet: https://www.ti.com/lit/ds/symlink/cd74hct374.pdf
pins: 1 OE, 2 O0, 3 D0, 4 D1, 5 O1, 6 O2, 7 D2, 8 D3, 9 O3, 10 GND, 11 Cp, 12 O4, 13 D4, 14 D5, 15 O5, 16 O6, 17 D6, 18 D7, 19 O7, 20 VCC

## 74HCT541
designator *  value 74HCT541  Reference: U
ki_keywords: TTL BUFFER 3State BUS; ki_description: 8-bit Buffer/Line Driver 3-state outputs; ki_fp_filters: DIP?20*; Datasheet: http://www.ti.com/lit/gpn/sn74HCT541
pins: 1 G1, 2 A0, 3 A1, 4 A2, 5 A3, 6 A4, 7 A5, 8 A6, 9 A7, 10 GND, 11 Y7, 12 Y6, 13 Y5, 14 Y4, 15 Y3, 16 Y2, 17 Y1, 18 Y0, 19 G2, 20 VCC

## 74HCT574
designator *  value 74HCT574  Reference: U
ki_keywords: TTL REG DFF DFF8 3State; ki_description: 8-bit Register, 3-state outputs; ki_fp_filters: DIP?20*; Datasheet: http://www.ti.com/lit/gpn/sn74HCT574
pins: 1 OE, 2 D0, 3 D1, 4 D2, 5 D3, 6 D4, 7 D5, 8 D6, 9 D7, 10 GND, 11 Cp, 12 Q7, 13 Q6, 14 Q5, 15 Q4, 16 Q3, 17 Q2, 18 Q1, 19 Q0, 20 VCC

## 74HCT595
designator *  value 74HCT595  Reference: U
ki_keywords: HCTMOS SR 3State; ki_description: 8-bit serial in/out Shift Register 3-State Outputs; ki_fp_filters: DIP*W7.62mm* SOIC*3.9x9.9mm*P1.27mm* TSSOP*4.4x5mm*P0.65mm* SOIC*5.3x10.2mm*P1.27mm* SOIC*7.5x10.3mm*P1.27mm*; Datasheet: https://assets.nexperia.com/documents/data-sheet/74HC_HCT595.pdf
pins: 1 QB, 2 QC, 3 QD, 4 QE, 5 QF, 6 QG, 7 QH, 8 GND, 9 QH', 10 ~{{SRCLR}}, 11 SRCLK, 12 RCLK, 13 ~{{OE}}, 14 SER, 15 QA, 16 VCC

## 74HCT596
designator *  value 74HCT596  Reference: U
ki_keywords: HCTMOS SR OpenCollector; ki_description: 8-bit serial in/out Shift Register Open Collector Outputs; ki_fp_filters: DIP*W7.62mm* SOIC*3.9x9.9mm*P1.27mm* TSSOP*4.4x5mm*P0.65mm* SOIC*5.3x10.2mm*P1.27mm* SOIC*7.5x10.3mm*P1.27mm*; Datasheet: https://assets.nexperia.com/documents/data-sheet/74HC_HCT595.pdf
pins: 1 QB, 2 QC, 3 QD, 4 QE, 5 QF, 6 QG, 7 QH, 8 GND, 9 QH', 10 ~{{SRCLR}}, 11 SRCLK, 12 RCLK, 13 ~{{OE}}, 14 SER, 15 QA, 16 VCC

## 74HCT688
designator *  value 74HCT688  Reference: U
ki_keywords: HCTMOS DECOD Arith; ki_description: 8-bit magnitude comparator; ki_fp_filters: DIP?20* SOIC?20* SO?20* TSSOP?20*; Datasheet: https://www.ti.com/lit/ds/symlink/cd54hc688.pdf
pins: 1 G, 2 P0, 3 R0, 4 P1, 5 R1, 6 P2, 7 R2, 8 P3, 9 R3, 10 GND, 11 P4, 12 R4, 13 P5, 14 R5, 15 P6, 16 R6, 17 P7, 18 R7, 19 P=R, 20 VCC

## 74HCT4051
designator *  value 74HCT4051  Reference: U
ki_keywords: TTL Multiplexer Demultiplexer Analog; ki_description: 8-channel analog multiplexer/demultiplexer, DIP-16/SOIC-16/TSSOP-16; ki_fp_filters: DIP*W7.62mm* SOIC*3.9x9.9mm*P1.27mm* SOIC*5.3x10.2mm*P1.27mm* TSSOP*4.4x5mm*P0.65mm*; Datasheet: http://www.ti.com/lit/ds/symlink/cd74hct4051.pdf
pins: 1 A4, 2 A6, 3 A, 4 A7, 5 A5, 6 ~{{E}}, 7 VEE, 8 GND, 9 S2, 10 S1, 11 S0, 12 A3, 13 A0, 14 A1, 15 A2, 16 VCC

## 74LCX07
designator *  value 74LCX07  Reference: U
ki_keywords: CMOS hex buffer; ki_description: CMOS hex buffer (open drain) with 5V tolerant inputs; ki_fp_filters: SOIC*3.9x8.7mm*P1.27mm* TSSOP*4.4x5mm*P0.65mm* DIP*W7.62mm*; Datasheet: www.st.com/resource/en/datasheet/74lcx07.pdf
part A pins: 1, 2
part B pins: 3, 4
part C pins: 5, 6
part D pins: 8, 9
part E pins: 10, 11
part F pins: 12, 13
part G pins: 7 GND, 14 VCC

## 74LS00
designator *  value 74LS00  Reference: U
ki_keywords: TTL nand 2-input; ki_description: quad 2-input NAND gate; ki_fp_filters: DIP*W7.62mm* SO14*; Datasheet: http://www.ti.com/lit/gpn/sn74ls00
part A pins: 1, 2, 3
part B pins: 4, 5, 6
part C pins: 8, 9, 10
part D pins: 11, 12, 13
part E pins: 7 GND, 14 VCC
1 alternate drawing of the same symbol

## 74LS01
designator *  value 74LS01  Reference: U
ki_keywords: TTL nand 2-input open collector; ki_description: quad 2-input NAND gate, open collector outputs NRND; ki_fp_filters: DIP*W7.62mm*; Datasheet: http://www.nteinc.com/specs/7400to7499/pdf/nte74LS01.pdf
part A pins: 1, 2, 3
part B pins: 4, 5, 6
part C pins: 8, 9, 10
part D pins: 11, 12, 13
part E pins: 7 GND, 14 VCC
1 alternate drawing of the same symbol

## 74LS02
designator *  value 74LS02  Reference: U
ki_keywords: TTL Nor2; ki_description: quad 2-input NOR gate; ki_fp_filters: SO14* DIP*W7.62mm*; Datasheet: http://www.ti.com/lit/gpn/sn74ls02
part A pins: 1, 2, 3
part B pins: 4, 5, 6
part C pins: 8, 9, 10
part D pins: 11, 12, 13
part E pins: 7 GND, 14 VCC
1 alternate drawing of the same symbol

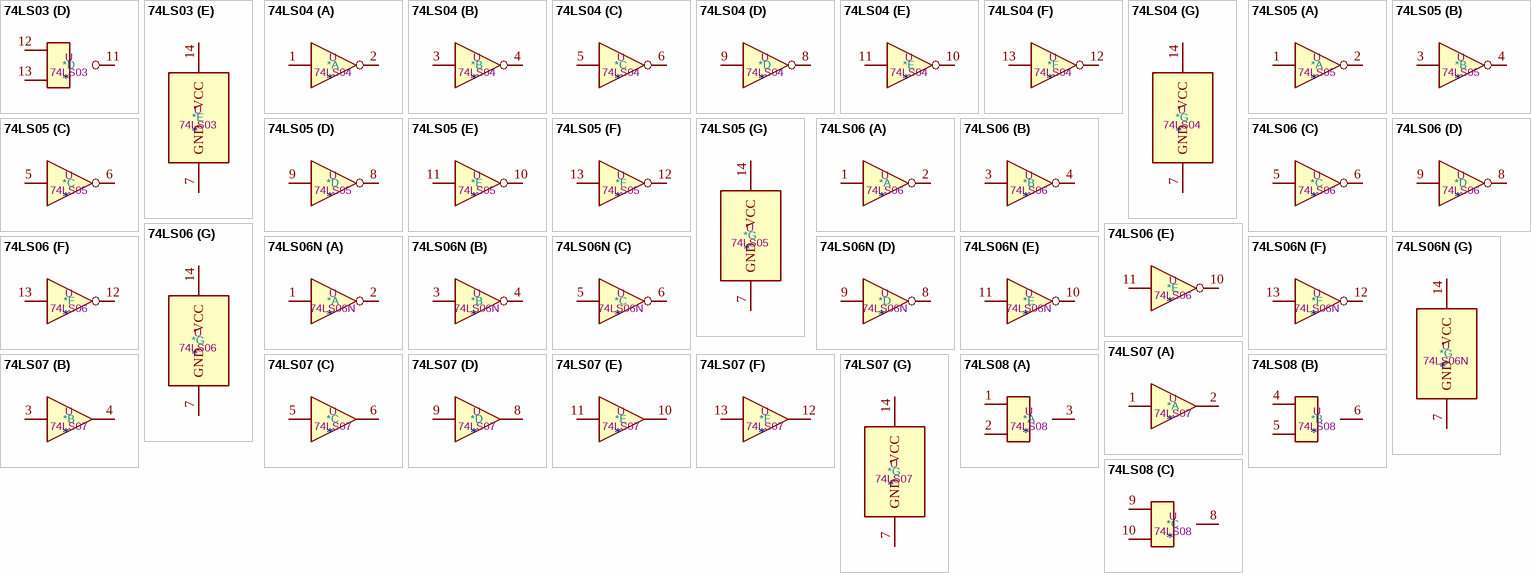
[diagram p4: symbols 74LS03 to 74LS08]

## 74LS03
designator *  value 74LS03  Reference: U
ki_keywords: TTL Nand2 OpenColl; ki_description: Quad 2-input NAND open collector; ki_fp_filters: DIP*W7.62mm**; Datasheet: http://www.ti.com/lit/gpn/sn74LS03
part A pins: 1, 2, 3
part B pins: 4, 5, 6
part C pins: 8, 9, 10
part D pins: 11, 12, 13
part E pins: 7 GND, 14 VCC
1 alternate drawing of the same symbol

## 74LS04
designator *  value 74LS04  Reference: U
ki_keywords: TTL not inv; ki_description: Hex Inverter; ki_fp_filters: DIP*W7.62mm* SSOP?14* TSSOP?14*; Datasheet: http://www.ti.com/lit/gpn/sn74LS04
part A pins: 1, 2
part B pins: 3, 4
part C pins: 5, 6
part D pins: 8, 9
part E pins: 10, 11
part F pins: 12, 13
part G pins: 7 GND, 14 VCC

## 74LS05
designator *  value 74LS05  Reference: U
ki_keywords: TTL not inv OpenCol; ki_description: Inverter Open Collect; ki_fp_filters: DIP*W7.62mm*; Datasheet: http://www.ti.com/lit/gpn/sn74LS05
part A pins: 1, 2
part B pins: 3, 4
part C pins: 5, 6
part D pins: 8, 9
part E pins: 10, 11
part F pins: 12, 13
part G pins: 7 GND, 14 VCC

## 74LS06
designator *  value 74LS06  Reference: U
ki_keywords: TTL not inv OpenCol; ki_description: Inverter Open Collect; ki_fp_filters: DIP*W7.62mm*; Datasheet: http://www.ti.com/lit/gpn/sn74LS06
part A pins: 1, 2
part B pins: 3, 4
part C pins: 5, 6
part D pins: 8, 9
part E pins: 10, 11
part F pins: 12, 13
part G pins: 7 GND, 14 VCC

## 74LS06N
designator *  value 74LS06N  Reference: U
ki_keywords: TTL not inv OpenCol; ki_description: Inverter Open Collect; ki_fp_filters: DIP*W7.62mm*; Datasheet: http://www.ti.com/lit/gpn/sn74LS06N
part A pins: 1, 2
part B pins: 3, 4
part C pins: 5, 6
part D pins: 8, 9
part E pins: 10, 11
part F pins: 12, 13
part G pins: 7 GND, 14 VCC

## 74LS07
designator *  value 74LS07  Reference: U
ki_keywords: TTL hex buffer OpenCol; ki_description: Hex Buffers and Drivers With Open Collector High Voltage Outputs; ki_fp_filters: SOIC*3.9x8.7mm*P1.27mm* TSSOP*4.4x5mm*P0.65mm* DIP*W7.62mm*; Datasheet: www.ti.com/lit/ds/symlink/sn74ls07.pdf
part A pins: 1, 2
part B pins: 3, 4
part C pins: 5, 6
part D pins: 8, 9
part E pins: 10, 11
part F pins: 12, 13
part G pins: 7 GND, 14 VCC

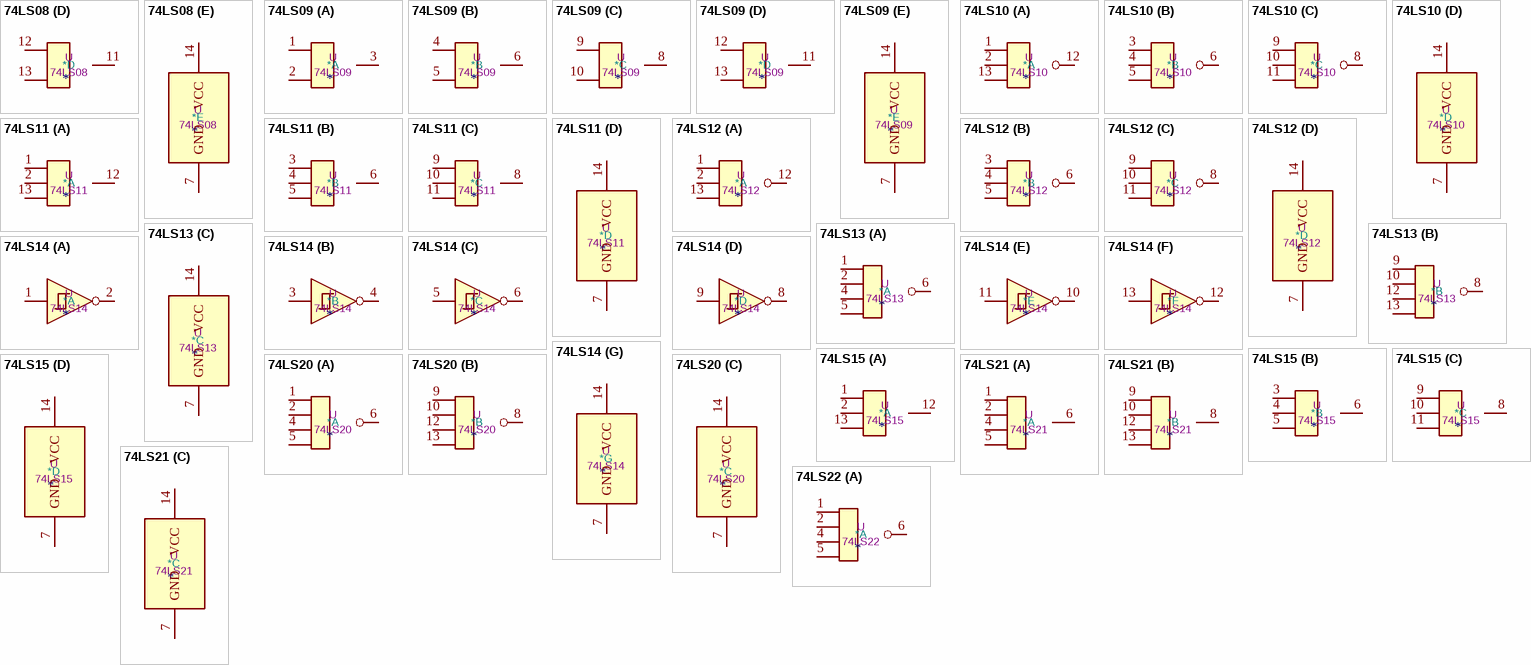
[diagram p5: symbols 74LS08 to 74LS22]

## 74LS08
designator *  value 74LS08  Reference: U
ki_keywords: TTL and2; ki_description: Quad And2; ki_fp_filters: DIP*W7.62mm*; Datasheet: http://www.ti.com/lit/gpn/sn74LS08
part A pins: 1, 2, 3
part B pins: 4, 5, 6
part C pins: 8, 9, 10
part D pins: 11, 12, 13
part E pins: 7 GND, 14 VCC
1 alternate drawing of the same symbol

## 74LS09
designator *  value 74LS09  Reference: U
ki_keywords: TTL and2 OpenCol; ki_description: Quad 2-input AND Open Collect; ki_fp_filters: DIP*W7.62mm*; Datasheet: http://www.ti.com/lit/gpn/sn74LS09
part A pins: 1, 2, 3
part B pins: 4, 5, 6
part C pins: 8, 9, 10
part D pins: 11, 12, 13
part E pins: 7 GND, 14 VCC
1 alternate drawing of the same symbol

## 74LS10
designator *  value 74LS10  Reference: U
ki_keywords: TTL Nand3; ki_description: Triple 3-input NAND; ki_fp_filters: DIP*W7.62mm*; Datasheet: http://www.ti.com/lit/gpn/sn74LS10
part A pins: 1, 2, 12, 13
part B pins: 3, 4, 5, 6
part C pins: 8, 9, 10, 11
part D pins: 7 GND, 14 VCC
1 alternate drawing of the same symbol

## 74LS11
designator *  value 74LS11  Reference: U
ki_keywords: TTL And3; ki_description: Triple 3-input AND; ki_fp_filters: DIP*W7.62mm*; Datasheet: http://www.ti.com/lit/gpn/sn74LS11
part A pins: 1, 2, 12, 13
part B pins: 3, 4, 5, 6
part C pins: 8, 9, 10, 11
part D pins: 7 GND, 14 VCC
1 alternate drawing of the same symbol

## 74LS12
designator *  value 74LS12  Reference: U
ki_keywords: TTL Nand3 OpenCol; ki_description: Triple 3-input NAND Open Collector; ki_fp_filters: DIP*W7.62mm*; Datasheet: http://www.ti.com/lit/gpn/sn74LS12
part A pins: 1, 2, 12, 13
part B pins: 3, 4, 5, 6
part C pins: 8, 9, 10, 11
part D pins: 7 GND, 14 VCC
1 alternate drawing of the same symbol

## 74LS13
designator *  value 74LS13  Reference: U
ki_keywords: TTL Nand4; ki_description: Dual 4-input NAND Schmitt trigger; ki_fp_filters: DIP*W7.62mm*; Datasheet: http://www.ti.com/lit/gpn/sn74LS13
part A pins: 1, 2, 4, 5, 6
part B pins: 8, 9, 10, 12, 13
part C pins: 7 GND, 14 VCC
1 alternate drawing of the same symbol

## 74LS14
designator *  value 74LS14  Reference: U
ki_keywords: TTL not inverter; ki_description: Hex inverter schmitt trigger; ki_fp_filters: DIP*W7.62mm*; Datasheet: http://www.ti.com/lit/gpn/sn74LS14
part A pins: 1, 2
part B pins: 3, 4
part C pins: 5, 6
part D pins: 8, 9
part E pins: 10, 11
part F pins: 12, 13
part G pins: 7 GND, 14 VCC

## 74LS15
designator *  value 74LS15  Reference: U
ki_keywords: TTL And3; ki_description: Triple 3-input AND; ki_fp_filters: DIP*W7.62mm*; Datasheet: http://www.ti.com/lit/gpn/sn74LS15
part A pins: 1, 2, 12, 13
part B pins: 3, 4, 5, 6
part C pins: 8, 9, 10, 11
part D pins: 7 GND, 14 VCC
1 alternate drawing of the same symbol

## 74LS20
designator *  value 74LS20  Reference: U
ki_keywords: TTL Nand4; ki_description: Dual 4-input NAND; ki_fp_filters: DIP?12*; Datasheet: http://www.ti.com/lit/gpn/sn74LS20
part A pins: 1, 2, 4, 5, 6
part B pins: 8, 9, 10, 12, 13
part C pins: 7 GND, 14 VCC
1 alternate drawing of the same symbol

## 74LS21
designator *  value 74LS21  Reference: U
ki_keywords: TTL And4; ki_description: Dual 4-input AND; ki_fp_filters: DIP?12*; Datasheet: http://www.ti.com/lit/gpn/sn74LS21
part A pins: 1, 2, 4, 5, 6
part B pins: 8, 9, 10, 12, 13
part C pins: 7 GND, 14 VCC
1 alternate drawing of the same symbol

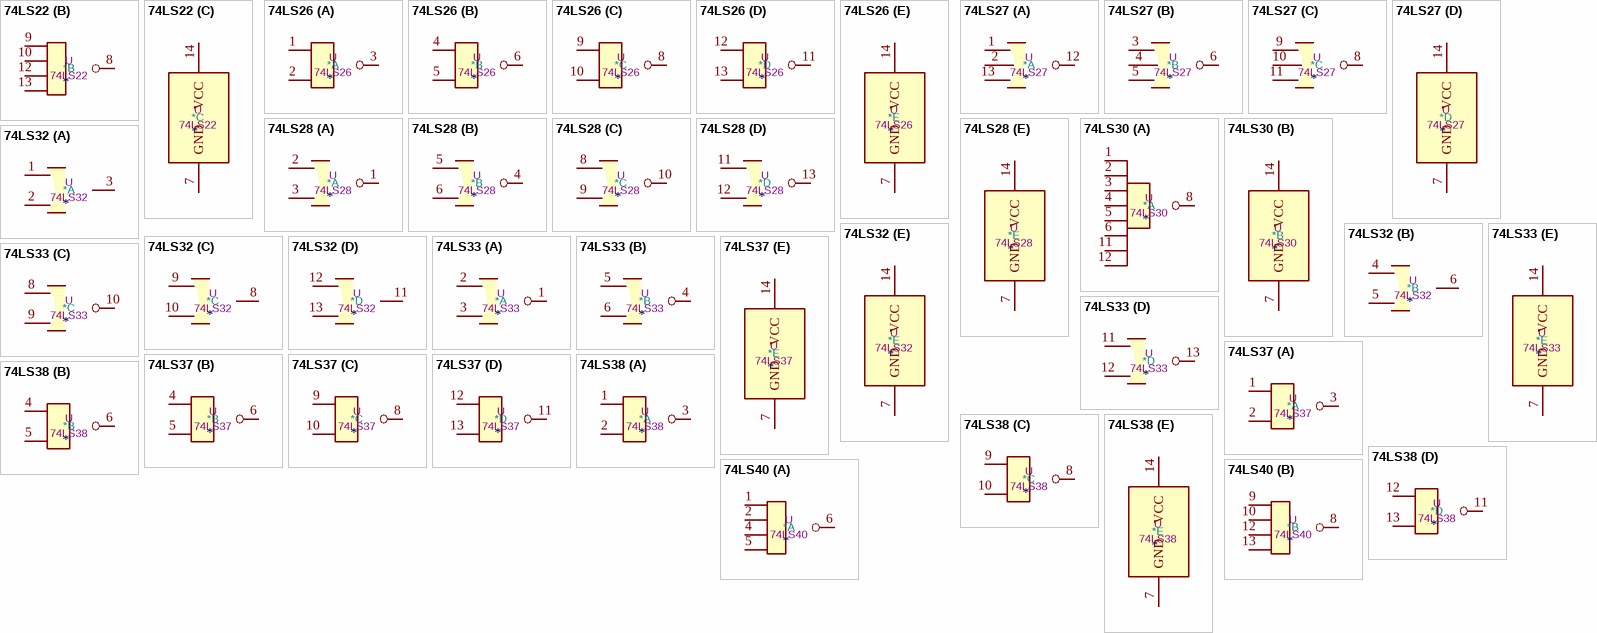
[diagram p6: symbols 74LS22 to 74LS40]

## 74LS22
designator *  value 74LS22  Reference: U
ki_keywords: TTL Nand4 OpenColl; ki_description: Dual 4-input NAND Open Collector; ki_fp_filters: DIP?12*; Datasheet: http://www.ti.com/lit/gpn/sn74LS22
part A pins: 1, 2, 4, 5, 6
part B pins: 8, 9, 10, 12, 13
part C pins: 7 GND, 14 VCC
1 alternate drawing of the same symbol

## 74LS26
designator *  value 74LS26  Reference: U
ki_keywords: TTL Nand2 OpenCol; ki_description: Quad 2-input NAND Open collector; ki_fp_filters: DIP*W7.62mm*; Datasheet: http://www.ti.com/lit/gpn/sn74LS26
part A pins: 1, 2, 3
part B pins: 4, 5, 6
part C pins: 8, 9, 10
part D pins: 11, 12, 13
part E pins: 7 GND, 14 VCC
1 alternate drawing of the same symbol

## 74LS27
designator *  value 74LS27  Reference: U
ki_keywords: TTL Nor3; ki_description: Triple 3-input NOR; ki_fp_filters: DIP*W7.62mm*; Datasheet: http://www.ti.com/lit/gpn/sn74LS27
part A pins: 1, 2, 12, 13
part B pins: 3, 4, 5, 6
part C pins: 8, 9, 10, 11
part D pins: 7 GND, 14 VCC
1 alternate drawing of the same symbol

## 74LS28
designator *  value 74LS28  Reference: U
ki_keywords: TTL Nor2 Buffer; ki_description: quad 2-input NOR buffer NRND; ki_fp_filters: SO14* DIP*W7.62mm*; Datasheet: http://eeshop.unl.edu/pdf/74ls28.pdf
part A pins: 1, 2, 3
part B pins: 4, 5, 6
part C pins: 8, 9, 10
part D pins: 11, 12, 13
part E pins: 7 GND, 14 VCC
1 alternate drawing of the same symbol

## 74LS30
designator *  value 74LS30  Reference: U
ki_keywords: TTL Nand8; ki_description: 8-input NAND; ki_fp_filters: DIP*W7.62mm*; Datasheet: http://www.ti.com/lit/gpn/sn74LS30
part A pins: 1, 2, 3, 4, 5, 6, 8, 11, 12
part B pins: 7 GND, 14 VCC
1 alternate drawing of the same symbol

## 74LS32
designator *  value 74LS32  Reference: U
ki_keywords: TTL Or2; ki_description: Quad 2-input OR; ki_fp_filters: DIP?14*; Datasheet: http://www.ti.com/lit/gpn/sn74LS32
part A pins: 1, 2, 3
part B pins: 4, 5, 6
part C pins: 8, 9, 10
part D pins: 11, 12, 13
part E pins: 7 GND, 14 VCC
1 alternate drawing of the same symbol

## 74LS33
designator *  value 74LS33  Reference: U
ki_keywords: TTL Nor2 OpenColl; ki_description: Quad 2-input NOR, Open collector; ki_fp_filters: DIP*W7.62mm*; Datasheet: http://www.ti.com/lit/gpn/sn74LS33
part A pins: 1, 2, 3
part B pins: 4, 5, 6
part C pins: 8, 9, 10
part D pins: 11, 12, 13
part E pins: 7 GND, 14 VCC
1 alternate drawing of the same symbol

## 74LS37
designator *  value 74LS37  Reference: U
ki_keywords: TTL nand 2-input buffer; ki_description: quad 2-input NAND buffer; ki_fp_filters: DIP*W7.62mm* SO14*; Datasheet: http://www.ti.com/lit/gpn/sn74ls37
part A pins: 1, 2, 3
part B pins: 4, 5, 6
part C pins: 8, 9, 10
part D pins: 11, 12, 13
part E pins: 7 GND, 14 VCC
1 alternate drawing of the same symbol

## 74LS38
designator *  value 74LS38  Reference: U
ki_keywords: TTL Nand2 OpenCol Buffer; ki_description: Quad Buffer 2-input NAND Open collector; ki_fp_filters: DIP*W7.62mm*; Datasheet: http://www.ti.com/lit/gpn/sn74LS38
part A pins: 1, 2, 3
part B pins: 4, 5, 6
part C pins: 8, 9, 10
part D pins: 11, 12, 13
part E pins: 7 GND, 14 VCC
1 alternate drawing of the same symbol

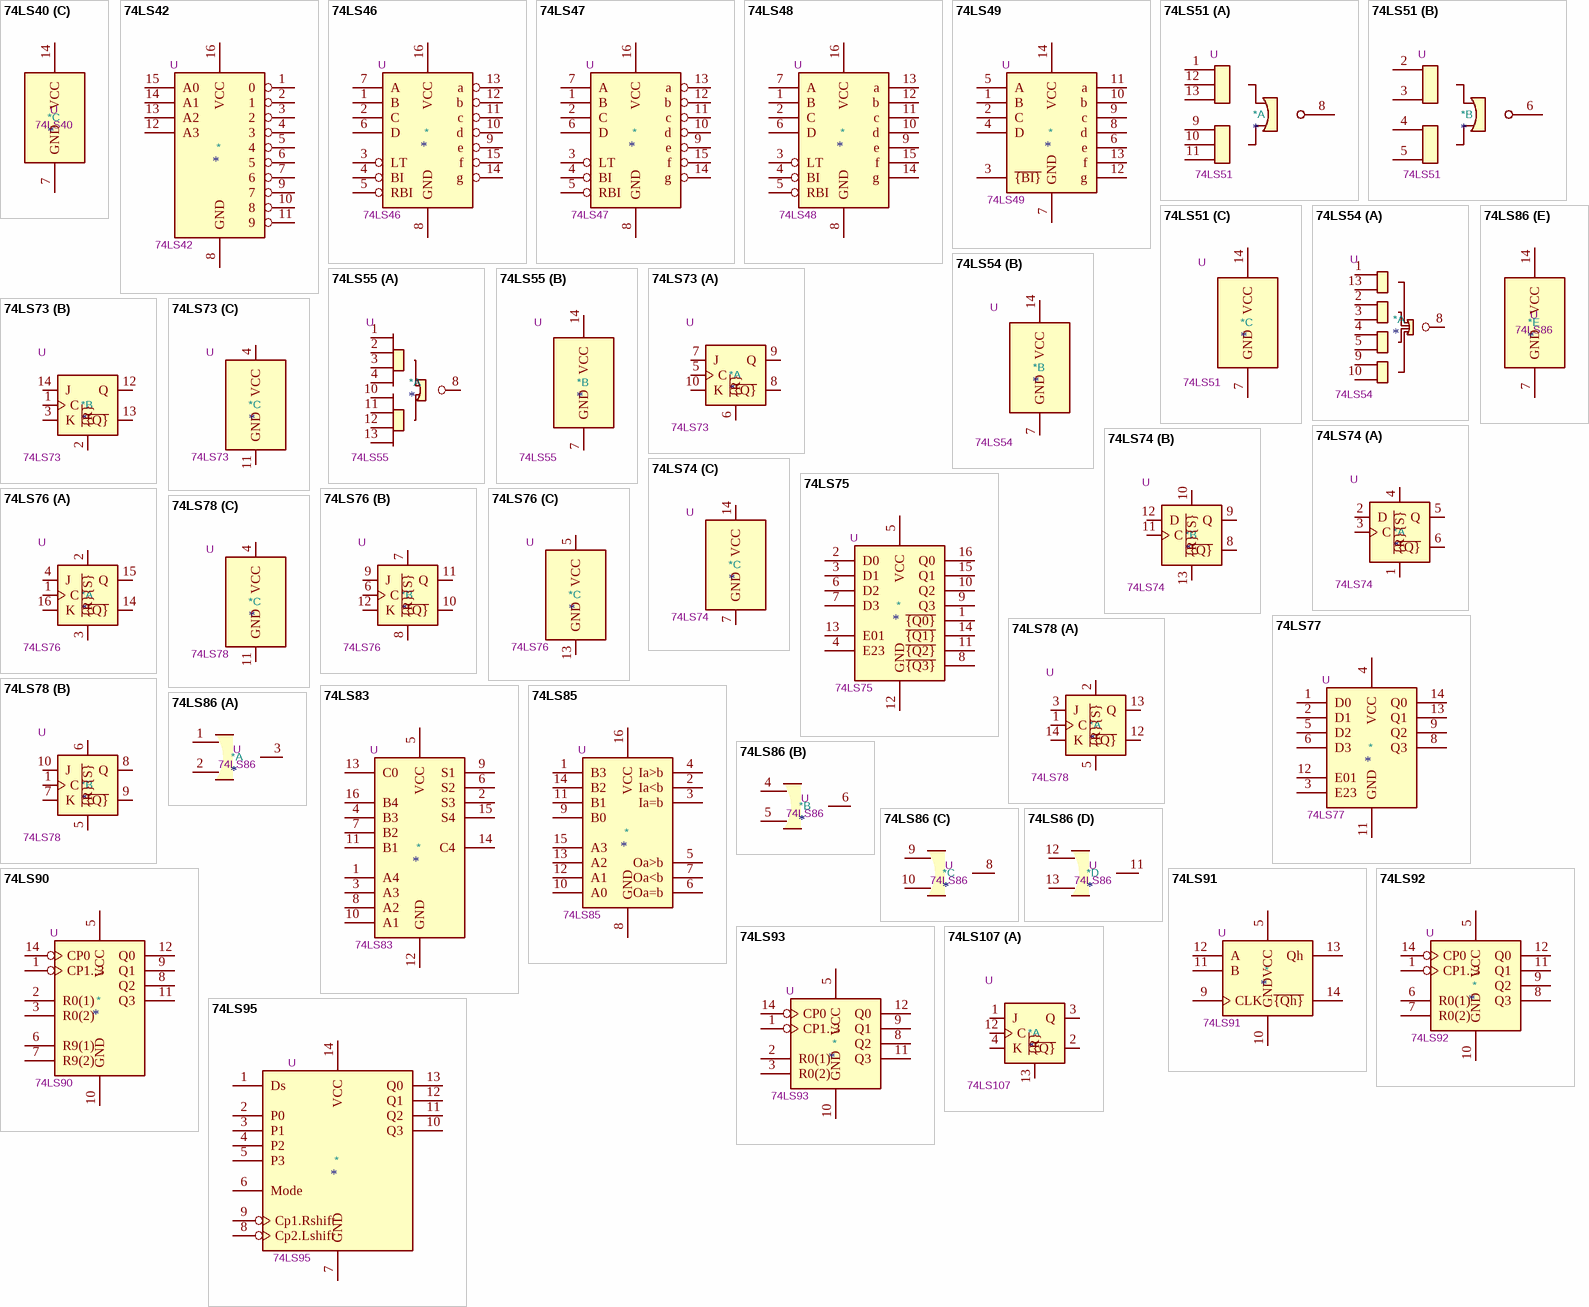
[diagram p7: symbols 74LS40 to 74LS107]

## 74LS40
designator *  value 74LS40  Reference: U
ki_keywords: TTL Nand4; ki_description: Dual 4-input NAND; ki_fp_filters: DIP?12*; Datasheet: http://www.ti.com/lit/gpn/sn74LS40
part A pins: 1, 2, 4, 5, 6
part B pins: 8, 9, 10, 12, 13
part C pins: 7 GND, 14 VCC
1 alternate drawing of the same symbol

## 74LS42
designator *  value 74LS42  Reference: U
ki_keywords: TTL DECOD DECOD10; ki_description: 4 to 10 line Decoder; ki_fp_filters: DIP?16*; Datasheet: http://www.ti.com/lit/gpn/sn74LS42
pins: 1 0, 2 1, 3 2, 4 3, 5 4, 6 5, 7 6, 8 GND, 9 7, 10 8, 11 9, 12 A3, 13 A2, 14 A1, 15 A0, 16 VCC

## 74LS46
designator *  value 74LS46  Reference: U
ki_keywords: TTL DECOD DECOD7 OpenCol; ki_description: BCD to 7-segment Driver, Open Collector, 15V outputs; ki_fp_filters: DIP?16*; Datasheet: http://www.ti.com/lit/gpn/sn74LS46
pins: 1 B, 2 C, 3 LT, 4 BI, 5 RBI, 6 D, 7 A, 8 GND, 9 e, 10 d, 11 c, 12 b, 13 a, 14 g, 15 f, 16 VCC

## 74LS47
designator *  value 74LS47  Reference: U
ki_keywords: TTL DECOD DECOD7 OpenCol; ki_description: BCD to 7-segment Driver, Open Collector, 30V outputs; ki_fp_filters: DIP?16*; Datasheet: http://www.ti.com/lit/gpn/sn74LS47
pins: 1 B, 2 C, 3 LT, 4 BI, 5 RBI, 6 D, 7 A, 8 GND, 9 e, 10 d, 11 c, 12 b, 13 a, 14 g, 15 f, 16 VCC

## 74LS48
designator *  value 74LS48  Reference: U
ki_keywords: TTL DECOD DECOD7; ki_description: BCD to 7-segment Decoder/driver, Active High outputs; ki_fp_filters: DIP?16*; Datasheet: http://www.ti.com/lit/gpn/sn74LS48
pins: 1 B, 2 C, 3 LT, 4 BI, 5 RBI, 6 D, 7 A, 8 GND, 9 e, 10 d, 11 c, 12 b, 13 a, 14 g, 15 f, 16 VCC

## 74LS49
designator *  value 74LS49  Reference: U
ki_keywords: TTL DECOD DECOD7 OpenCol; ki_description: BCD to 7-segment decoder/driver, Open collector; ki_fp_filters: DIP*W7.62mm*; Datasheet: http://www.ti.com/lit/gpn/sn74ls47
pins: 1 B, 2 C, 3 ~{{BI}}, 4 D, 5 A, 6 e, 7 GND, 8 d, 9 c, 10 b, 11 a, 12 g, 13 f, 14 VCC

## 74LS51
designator *  value 74LS51  Reference: U
ki_keywords: TTL ANDNOR; ki_description: Dual 3- and 2-input AND-NOR ( S = /(AB[C] + DE[F]) ); ki_fp_filters: DIP*W7.62mm*; Datasheet: http://www.ti.com/lit/ds/symlink/sn74ls51.pdf
part A pins: 1, 8, 9, 10, 11, 12, 13
part B pins: 2, 3, 4, 5, 6
part C pins: 7 GND, 14 VCC

## 74LS54
designator *  value 74LS54  Reference: U
ki_keywords: TTL ANDNOR; ki_description: And-Nor (S = /(AB + CD + EF + GH) ); ki_fp_filters: DIP*W7.62mm*; Datasheet: http://www.ti.com/lit/gpn/sn74LS54
part A pins: 1, 2, 3, 4, 5, 8, 9, 10, 13
part B pins: 7 GND, 14 VCC

## 74LS55
designator *  value 74LS55  Reference: U
ki_keywords: TTL ANDNOR; ki_description: AND-NOR ( S = / (ABCD + EFGH) ); ki_fp_filters: DIP*W7.62mm*; Datasheet: http://www.ti.com/lit/gpn/sn74LS55
part A pins: 1, 2, 3, 4, 8, 10, 11, 12, 13
part B pins: 7 GND, 14 VCC

## 74LS73
designator *  value 74LS73  Reference: U
ki_keywords: TTL JK JKFF; ki_description: Dual JK Flip-Flop, reset; ki_fp_filters: DIP*W7.62mm*; Datasheet: http://www.ti.com/lit/gpn/sn74LS73
part A pins: 5 C, 6 ~{{R}}, 7 J, 8 ~{{Q}}, 9 Q, 10 K
part B pins: 1 C, 2 ~{{R}}, 3 K, 12 Q, 13 ~{{Q}}, 14 J
part C pins: 4 VCC, 11 GND

## 74LS74
designator *  value 74LS74  Reference: U
ki_keywords: TTL DFF; ki_description: Dual D Flip-flop, Set & Reset; ki_fp_filters: DIP*W7.62mm*; Datasheet: 74xx/74hc_hct74.pdf
part A pins: 1 ~{{R}}, 2 D, 3 C, 4 ~{{S}}, 5 Q, 6 ~{{Q}}
part B pins: 8 ~{{Q}}, 9 Q, 10 ~{{S}}, 11 C, 12 D, 13 ~{{R}}
part C pins: 7 GND, 14 VCC

## 74LS75
designator *  value 74LS75  Reference: U
ki_keywords: TTL DFF Latch; ki_description: 4-bit Latch; ki_fp_filters: DIP?16*; Datasheet: http://www.ti.com/lit/gpn/sn74LS75
pins: 1 ~{{Q0}}, 2 D0, 3 D1, 4 E23, 5 VCC, 6 D2, 7 D3, 8 ~{{Q3}}, 9 Q3, 10 Q2, 11 ~{{Q2}}, 12 GND, 13 E01, 14 ~{{Q1}}, 15 Q1, 16 Q0

## 74LS76
designator *  value 74LS76  Reference: U
ki_keywords: TTL JK JKFF; ki_description: Dual JK Flip-flop, Set & Reset; ki_fp_filters: DIP?16*; Datasheet: http://www.ti.com/lit/gpn/sn74LS76
part A pins: 1 C, 2 ~{{S}}, 3 ~{{R}}, 4 J, 14 ~{{Q}}, 15 Q, 16 K
part B pins: 6 C, 7 ~{{S}}, 8 ~{{R}}, 9 J, 10 ~{{Q}}, 11 Q, 12 K
part C pins: 5 VCC, 13 GND

## 74LS77
designator *  value 74LS77  Reference: U
ki_keywords: TTL DFF Latch; ki_description: 4-bit Latch; ki_fp_filters: DIP?12*; Datasheet: http://www.ti.com/lit/gpn/sn74LS77
pins: 1 D0, 2 D1, 3 E23, 4 VCC, 5 D2, 6 D3, 8 Q3, 9 Q2, 11 GND, 12 E01, 13 Q1, 14 Q0

## 74LS78
designator *  value 74LS78  Reference: U
ki_keywords: TTL JK JKFF; ki_description: Dual JK Flip-flop, Set, Common clock & reset; ki_fp_filters: DIP*W7.62mm*; Datasheet: http://www.ti.com/lit/gpn/sn74LS78
part A pins: 1 C, 2 ~{{S}}, 3 J, 5 ~{{R}}, 12 ~{{Q}}, 13 Q, 14 K
part B pins: 1 C, 5 ~{{R}}, 6 ~{{S}}, 7 K, 8 Q, 9 ~{{Q}}, 10 J
part C pins: 4 VCC, 11 GND

## 74LS83
designator *  value 74LS83  Reference: U
ki_keywords: TTL ADD ARITH ALU; ki_description: 4-bit Full Adder; ki_fp_filters: DIP?16*; Datasheet: http://www.ti.com/lit/gpn/sn74LS83
pins: 1 A4, 2 S3, 3 A3, 4 B3, 5 VCC, 6 S2, 7 B2, 8 A2, 9 S1, 10 A1, 11 B1, 12 GND, 13 C0, 14 C4, 15 S4, 16 B4

## 74LS85
designator *  value 74LS85  Reference: U
ki_keywords: TTL COMP ARITH; ki_description: 4-bit Comparator; ki_fp_filters: DIP?16*; Datasheet: http://www.ti.com/lit/gpn/sn74LS85
pins: 1 B3, 2 Ia<b, 3 Ia=b, 4 Ia>b, 5 Oa>b, 6 Oa=b, 7 Oa<b, 8 GND, 9 B0, 10 A0, 11 B1, 12 A1, 13 A2, 14 B2, 15 A3, 16 VCC

## 74LS86
designator *  value 74LS86  Reference: U
ki_keywords: TTL XOR2; ki_description: Quad 2-input XOR; ki_fp_filters: DIP*W7.62mm*; Datasheet: 74xx/74ls86.pdf
part A pins: 1, 2, 3
part B pins: 4, 5, 6
part C pins: 8, 9, 10
part D pins: 11, 12, 13
part E pins: 7 GND, 14 VCC

## 74LS90
designator *  value 74LS90  Reference: U
ki_keywords: TTL CNT CNT4; ki_description: BCD Counter ( div 2 & div 5 ); ki_fp_filters: DIP?12*; Datasheet: http://www.ti.com/lit/gpn/sn74LS90
pins: 1 CP1..3, 2 R0(1), 3 R0(2), 5 VCC, 6 R9(1), 7 R9(2), 8 Q2, 9 Q1, 10 GND, 11 Q3, 12 Q0, 14 CP0

## 74LS91
designator *  value 74LS91  Reference: U
ki_keywords: TTL SR SR8; ki_description: 8-bit Serial Register; ki_fp_filters: DIP*W7.62mm*; Datasheet: http://www.ti.com/lit/gpn/sn74LS91
pins: 5 VCC, 9 CLK, 10 GND, 11 B, 12 A, 13 Qh, 14 ~{{Qh}}

## 74LS92
designator *  value 74LS92  Reference: U
ki_keywords: TTL CNT CNT4; ki_description: Divide by 12 counter; ki_fp_filters: DIP*W7.62mm*; Datasheet: http://www.ti.com/lit/gpn/sn74LS92
pins: 1 CP1..3, 5 VCC, 6 R0(1), 7 R0(2), 8 Q3, 9 Q2, 10 GND, 11 Q1, 12 Q0, 14 CP0

## 74LS93
designator *  value 74LS93  Reference: U
ki_keywords: TTL CNT CNT4; ki_description: Divide by 2 & 8 counter; ki_fp_filters: DIP*W7.62mm*; Datasheet: http://www.ti.com/lit/gpn/sn74LS93
pins: 1 CP1..3, 2 R0(1), 3 R0(2), 5 VCC, 8 Q2, 9 Q1, 10 GND, 11 Q3, 12 Q0, 14 CP0

## 74LS95
designator *  value 74LS95  Reference: U
ki_keywords: TTL SR SR4; ki_description: Shift Register 5-bit (in/out); ki_fp_filters: DIP*W7.62mm*; Datasheet: http://www.ti.com/lit/gpn/sn74LS95
pins: 1 Ds, 2 P0, 3 P1, 4 P2, 5 P3, 6 Mode, 7 GND, 8 Cp2.Lshift, 9 Cp1.Rshift, 10 Q3, 11 Q2, 12 Q1, 13 Q0, 14 VCC

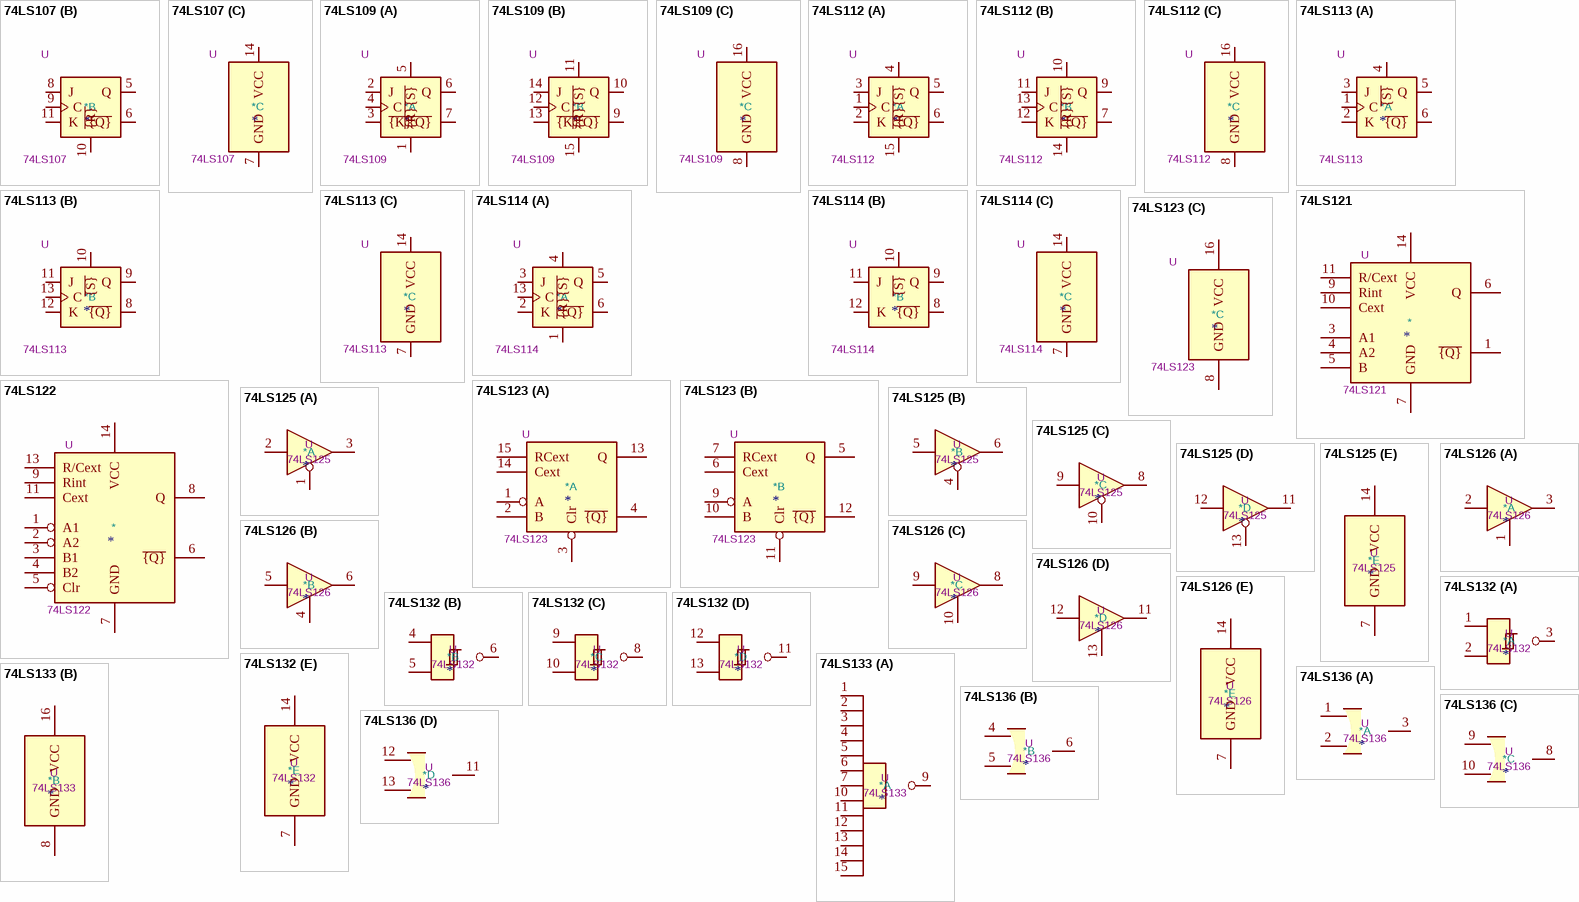
[diagram p8: symbols 74LS107 to 74LS136]

## 74LS107
designator *  value 74LS107  Reference: U
ki_keywords: TTL JK; ki_description: Dual JK Flip-Flop, reset; ki_fp_filters: DIP*W7.62mm*; Datasheet: http://www.ti.com/lit/gpn/sn74LS107
part A pins: 1 J, 2 ~{{Q}}, 3 Q, 4 K, 12 C, 13 ~{{R}}
part B pins: 5 Q, 6 ~{{Q}}, 8 J, 9 C, 10 ~{{R}}, 11 K
part C pins: 7 GND, 14 VCC

## 74LS109
designator *  value 74LS109  Reference: U
ki_keywords: TTL JK; ki_description: Dual JK Flip-Flop, Set & Reset; ki_fp_filters: DIP*W7.62mm*; Datasheet: http://www.ti.com/lit/gpn/sn74LS109
part A pins: 1 ~{{R}}, 2 J, 3 ~{{K}}, 4 C, 5 ~{{S}}, 6 Q, 7 ~{{Q}}
part B pins: 9 ~{{Q}}, 10 Q, 11 ~{{S}}, 12 C, 13 ~{{K}}, 14 J, 15 ~{{R}}
part C pins: 8 GND, 16 VCC

## 74LS112
designator *  value 74LS112  Reference: U
ki_keywords: TTL JK; ki_description: dual JK Flip-Flop, Set & Reset; ki_fp_filters: DIP?16*; Datasheet: http://www.ti.com/lit/gpn/sn74LS112
part A pins: 1 C, 2 K, 3 J, 4 ~{{S}}, 5 Q, 6 ~{{Q}}, 15 ~{{R}}
part B pins: 7 ~{{Q}}, 9 Q, 10 ~{{S}}, 11 J, 12 K, 13 C, 14 ~{{R}}
part C pins: 8 GND, 16 VCC

## 74LS113
designator *  value 74LS113  Reference: U
ki_keywords: TTL JK; ki_description: dual JK flip-flop, Set; ki_fp_filters: DIP*W7.62mm*; Datasheet: http://www.ti.com/lit/gpn/sn74LS113
part A pins: 1 C, 2 K, 3 J, 4 ~{{S}}, 5 Q, 6 ~{{Q}}
part B pins: 8 ~{{Q}}, 9 Q, 10 ~{{S}}, 11 J, 12 K, 13 C
part C pins: 7 GND, 14 VCC

## 74LS114
designator *  value 74LS114  Reference: U
ki_keywords: TTL JK; ki_description: Dual JK flip-flop, common Clock & Reset, Set; ki_fp_filters: DIP*W7.62mm*; Datasheet: http://www.ti.com/lit/gpn/sn74LS114
part A pins: 1 ~{{R}}, 2 K, 3 J, 4 ~{{S}}, 5 Q, 6 ~{{Q}}, 13 C
part B pins: 8 ~{{Q}}, 9 Q, 10 ~{{S}}, 11 J, 12 K
part C pins: 7 GND, 14 VCC

## 74LS121
designator *  value 74LS121  Reference: U
ki_keywords: monostable; ki_description: monostable multivibrator with Schmitt-trigger inputs; ki_fp_filters: DIP*W7.62mm*; Datasheet: http://www.ti.com/lit/gpn/sn74121
pins: 1 ~{{Q}}, 3 A1, 4 A2, 5 B, 6 Q, 7 GND, 9 Rint, 10 Cext, 11 R/Cext, 14 VCC

## 74LS122
designator *  value 74LS122  Reference: U
ki_keywords: TTL monostable; ki_description: Retriggerable Monostable; ki_fp_filters: DIP*W7.62mm*; Datasheet: http://www.ti.com/lit/gpn/sn74LS122
pins: 1 A1, 2 A2, 3 B1, 4 B2, 5 Clr, 6 ~{{Q}}, 7 GND, 8 Q, 9 Rint, 11 Cext, 13 R/Cext, 14 VCC

## 74LS123
designator *  value 74LS123  Reference: U
ki_keywords: TTL monostable; ki_description: Dual retriggerable Monostable; ki_fp_filters: DIP?16*; Datasheet: http://www.ti.com/lit/gpn/sn74LS123
part A pins: 1 A, 2 B, 3 Clr, 4 ~{{Q}}, 13 Q, 14 Cext, 15 RCext
part B pins: 5 Q, 6 Cext, 7 RCext, 9 A, 10 B, 11 Clr, 12 ~{{Q}}
part C pins: 8 GND, 16 VCC

## 74LS125
designator *  value 74LS125  Reference: U
ki_keywords: TTL buffer 3State; ki_description: Quad buffer 3-State outputs; ki_fp_filters: DIP*W7.62mm*; Datasheet: http://www.ti.com/lit/gpn/sn74LS125
part A pins: 1, 2, 3
part B pins: 4, 5, 6
part C pins: 8, 9, 10
part D pins: 11, 12, 13
part E pins: 7 GND, 14 VCC

## 74LS126
designator *  value 74LS126  Reference: U
ki_keywords: TTL Buffer 3State; ki_description: Quad buffer 3-State outputs; ki_fp_filters: DIP*W7.62mm*; Datasheet: http://www.ti.com/lit/gpn/sn74LS126
part A pins: 1, 2, 3
part B pins: 4, 5, 6
part C pins: 8, 9, 10
part D pins: 11, 12, 13
part E pins: 7 GND, 14 VCC

## 74LS132
designator *  value 74LS132  Reference: U
ki_keywords: TTL Nand2; ki_description: Quad 2-input NAND Schmitt trigger; ki_fp_filters: DIP*W7.62mm*; Datasheet: http://www.ti.com/lit/gpn/sn74LS132
part A pins: 1, 2, 3
part B pins: 4, 5, 6
part C pins: 8, 9, 10
part D pins: 11, 12, 13
part E pins: 7 GND, 14 VCC
1 alternate drawing of the same symbol

## 74LS133
designator *  value 74LS133  Reference: U
ki_keywords: TTL Nand13; ki_description: NAND 13-input; ki_fp_filters: DIP?16*; Datasheet: http://www.ti.com/lit/gpn/sn74LS133
part A pins: 1, 2, 3, 4, 5, 6, 7, 9, 10, 11, 12, 13, 14, 15
part B pins: 8 GND, 16 VCC
1 alternate drawing of the same symbol

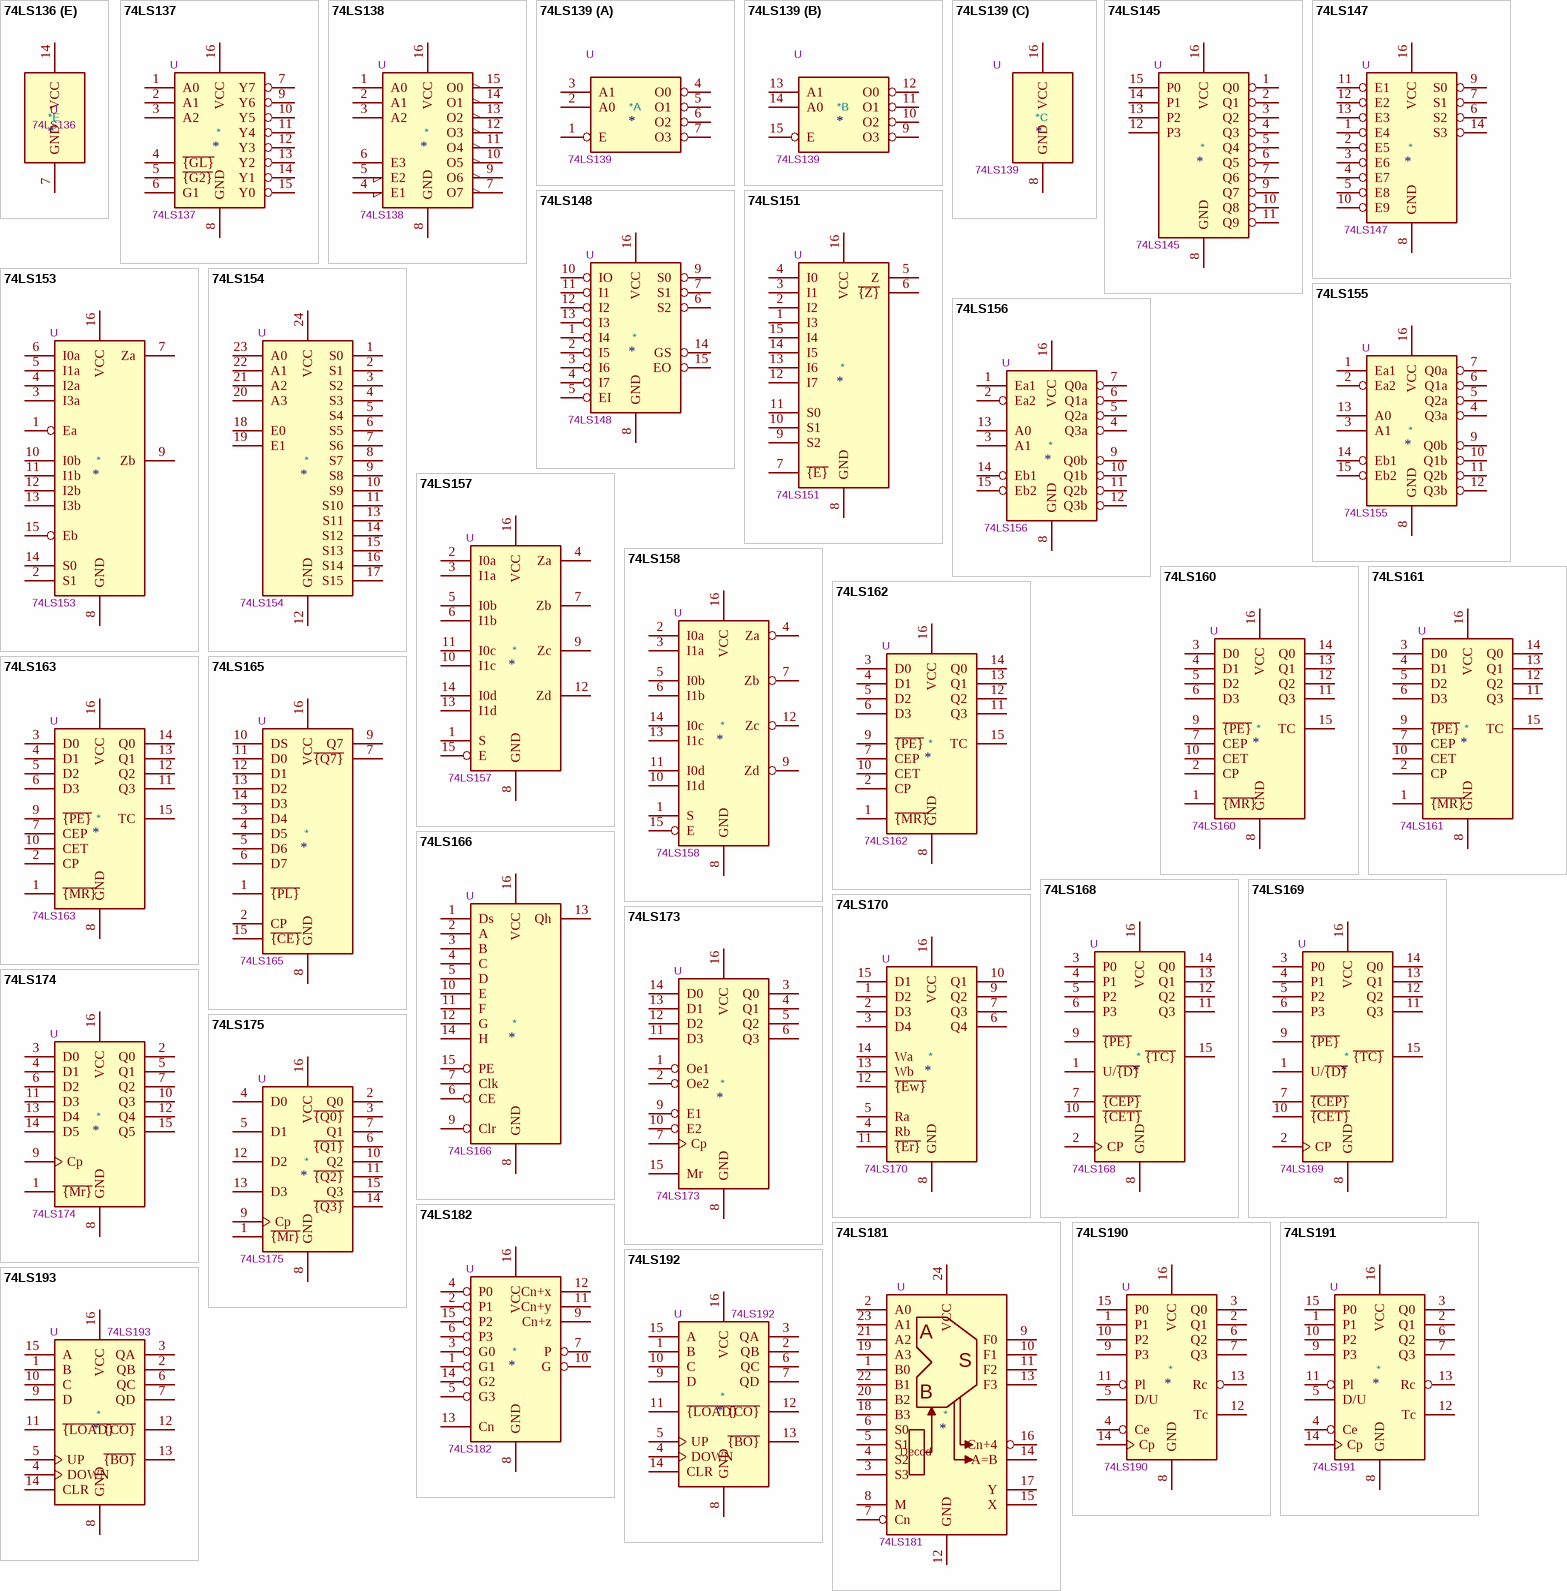
[diagram p9: symbols 74LS136 to 74LS193]